# Altium integrated library CDE_Library.IntLib: 6171 symbols (part 8 of 25)
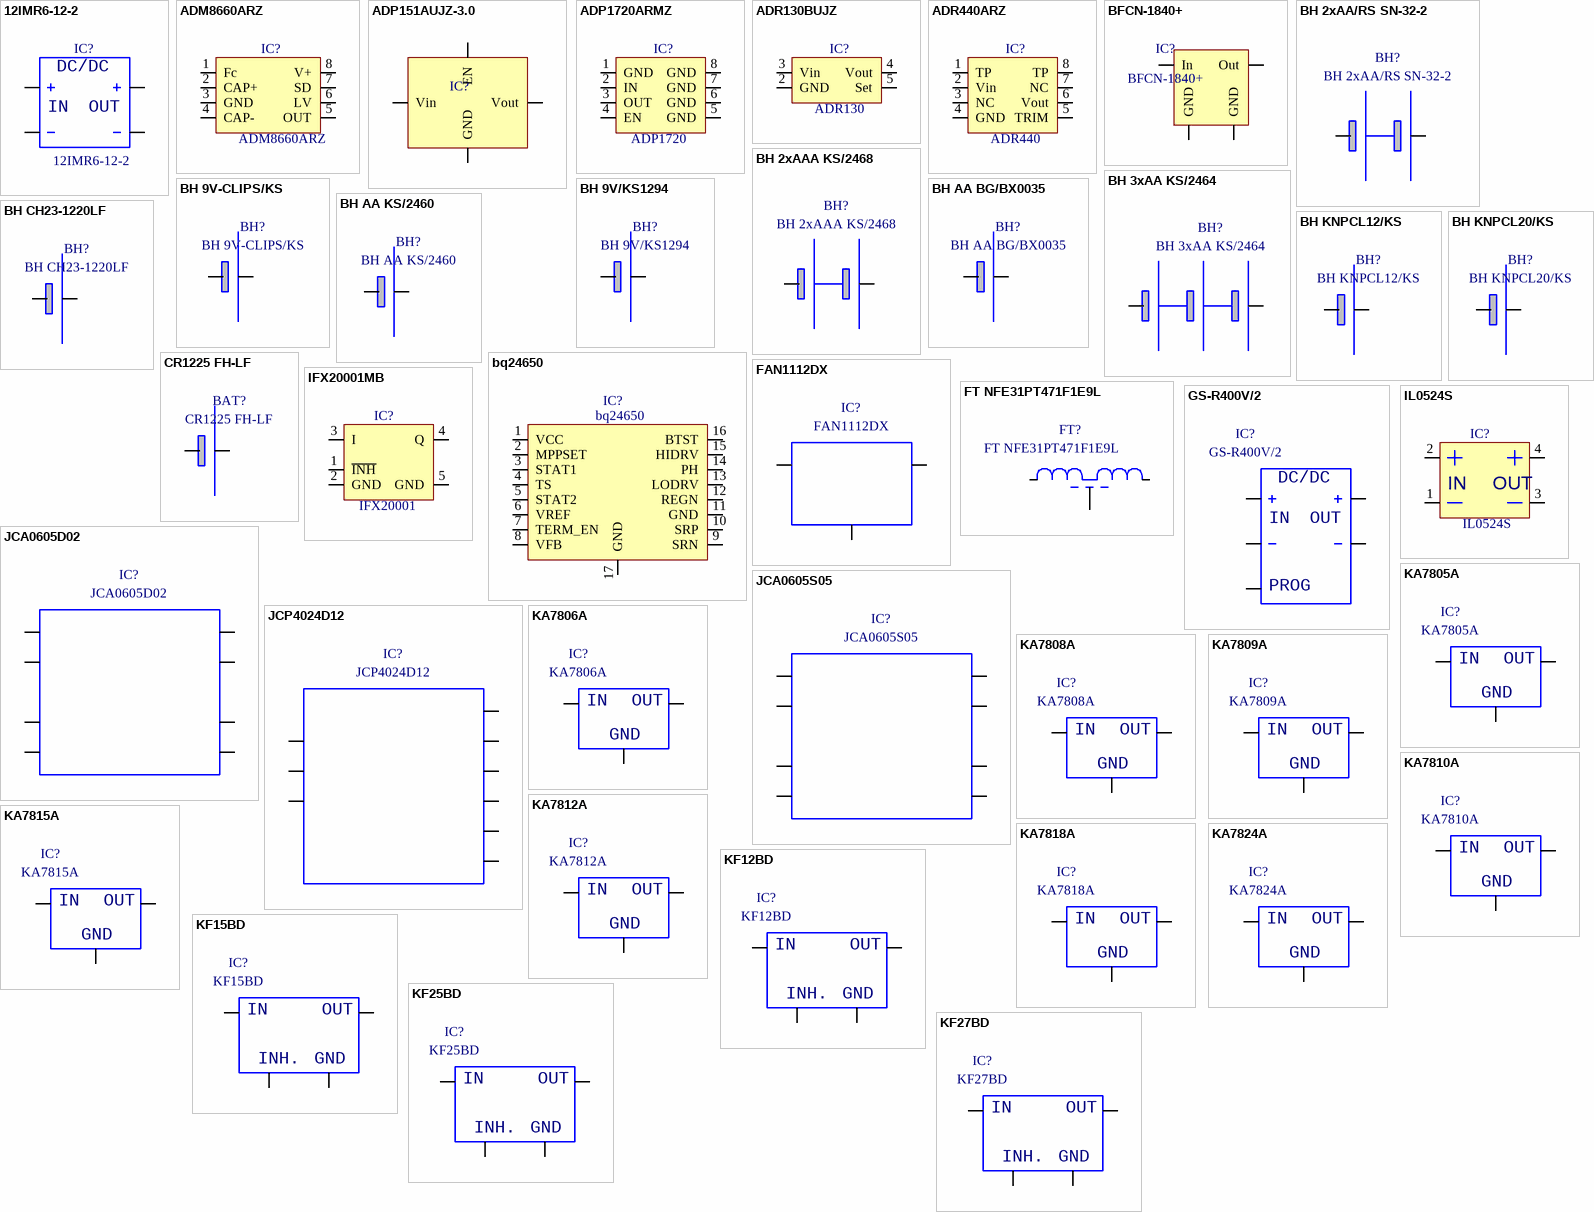
[diagram p264: symbols 12IMR6-12-2 to KF27BD]

## KA7824A
designator IC?
spanningsregelaar, +24V/1A, TO-220; Part Number: KA7824A; Component Kind: Standard; Component Type: Standard; Designator: KA7824A; Footprint: TO-220 (vertikaal); Library Reference: KA7824A; Pin Count: 3
footprint TO-220 (vertikaal)
pins: 1, 2, 3
text: IN; OUT; GND

## KF12BD
designator IC?
very low drop voltage regulator with inhibit, 1.25V
footprint smd SOICN/8
pins: 1, 2, 5, 8
text: IN; OUT; INH.; GND

## KF15BD
designator IC?
very low drop voltage regulator with inhibit, 1.5V; Part Number: KF15BD; Component Kind: Standard; Component Type: Standard; Designator: KF15BD; Footprint: smd SOICN/8; Library Reference: KF15BD; Pin Count: 4
footprint smd SOICN/8
pins: 1, 2, 5, 8
text: IN; OUT; INH.; GND

## KF25BD
designator IC?
very low drop voltage regulator with inhibit, 2.5V; Part Number: KF25BD; Component Kind: Standard; Component Type: Standard; Designator: KF25BD; Footprint: smd SOICN/8; Library Reference: KF25BD; Pin Count: 4
footprint smd SOICN/8
pins: 1, 2, 5, 8
text: IN; OUT; INH.; GND

## KF27BD
designator IC?
very low drop voltage regulator with inhibit, 2.7V; Part Number: KF27BD; Component Kind: Standard; Component Type: Standard; Designator: KF27BD; Footprint: smd SOICN/8; Library Reference: KF27BD; Pin Count: 4
footprint smd SOICN/8
pins: 1, 2, 5, 8
text: IN; OUT; INH.; GND

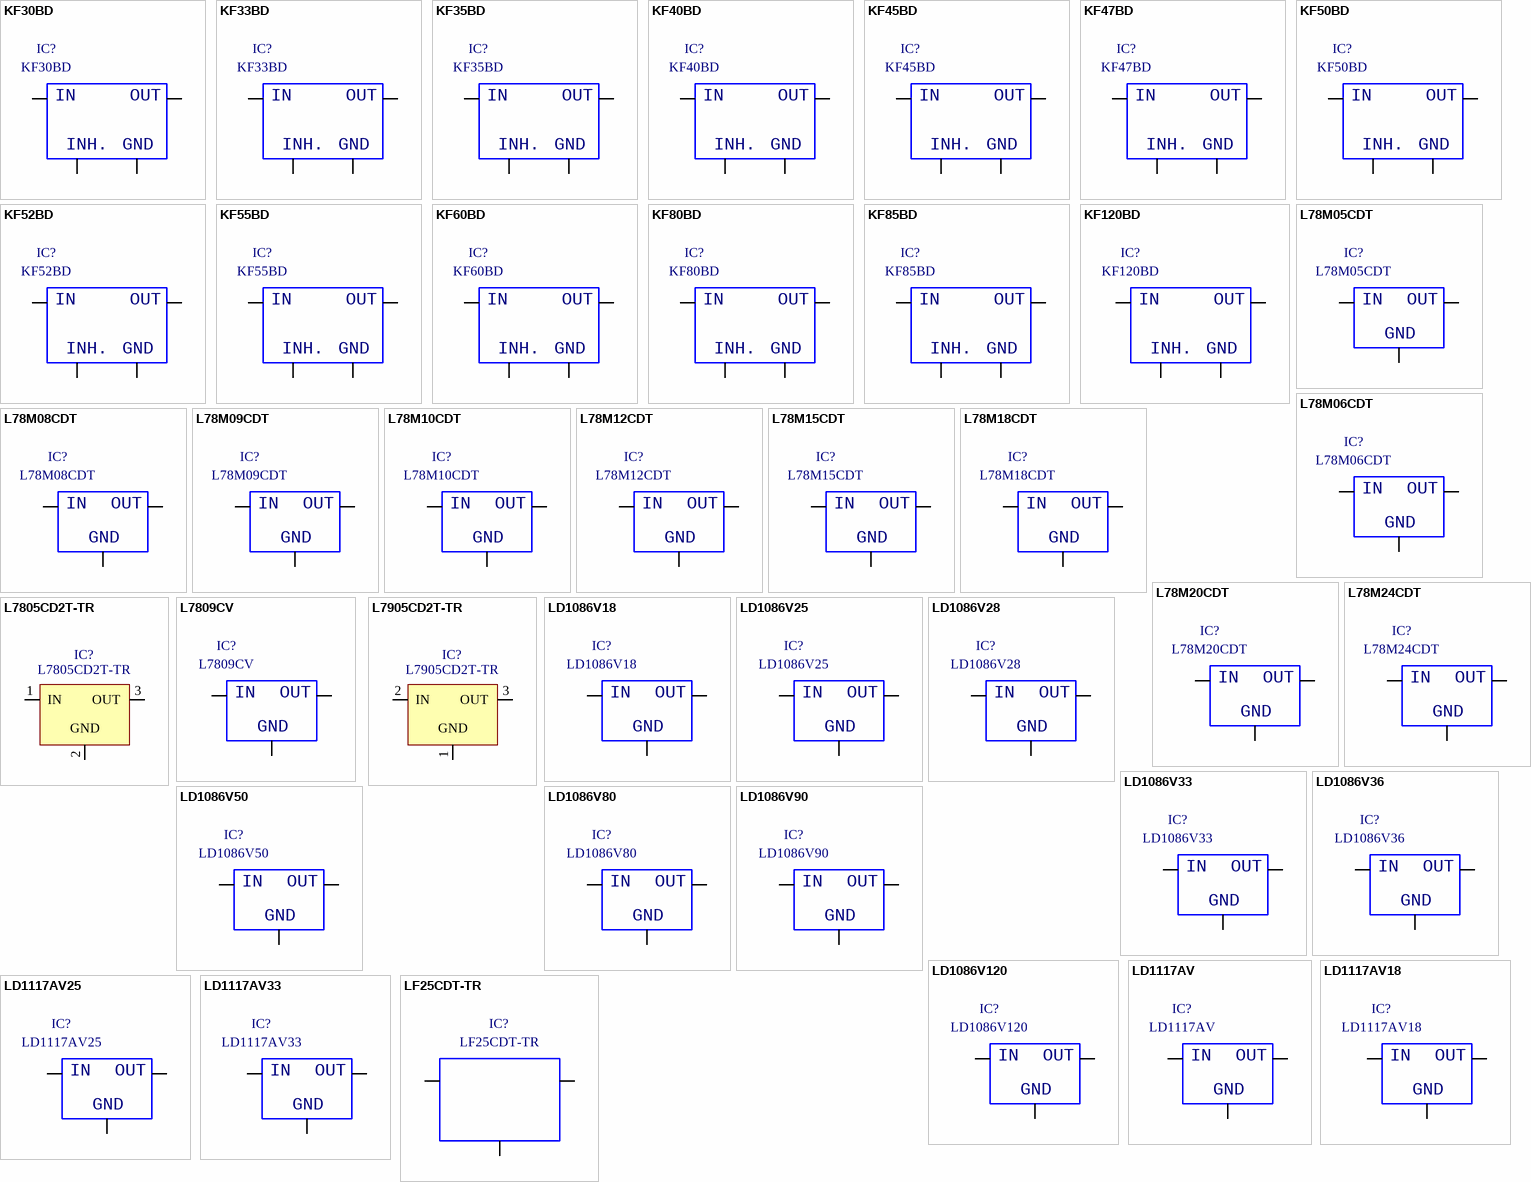
[diagram p107: symbols KF30BD to LF25CDT-TR]

## KF30BD
designator IC?
very low drop voltage regulator with inhibit, 3V; Part Number: KF30BD; Component Kind: Standard; Component Type: Standard; Designator: KF30BD; Footprint: smd SOICN/8; Library Reference: KF30BD; Pin Count: 4
footprint smd SOICN/8
pins: 1, 2, 5, 8
text: IN; OUT; INH.; GND

## KF33BD
designator IC?
very low drop voltage regulator with inhibit, 3.3V; Part Number: KF33BD; Component Kind: Standard; Component Type: Standard; Designator: KF33BD; Footprint: smd SOICN/8; Library Reference: KF33BD; Pin Count: 4
footprint smd SOICN/8
pins: 1, 2, 5, 8
text: IN; OUT; INH.; GND

## KF35BD
designator IC?
very low drop voltage regulator with inhibit, 3.5V; Part Number: KF35BD; Component Kind: Standard; Component Type: Standard; Designator: KF35BD; Footprint: smd SOICN/8; Library Reference: KF35BD; Pin Count: 4
footprint smd SOICN/8
pins: 1, 2, 5, 8
text: IN; OUT; INH.; GND

## KF40BD
designator IC?
very low drop voltage regulator with inhibit, 4V; Part Number: KF40BD; Component Kind: Standard; Component Type: Standard; Designator: KF40BD; Footprint: smd SOICN/8; Library Reference: KF40BD; Pin Count: 4
footprint smd SOICN/8
pins: 1, 2, 5, 8
text: IN; OUT; INH.; GND

## KF45BD
designator IC?
very low drop voltage regulator with inhibit, 4.5V; Part Number: KF45BD; Component Kind: Standard; Component Type: Standard; Designator: KF45BD; Footprint: smd SOICN/8; Library Reference: KF45BD; Pin Count: 4
footprint smd SOICN/8
pins: 1, 2, 5, 8
text: IN; OUT; INH.; GND

## KF47BD
designator IC?
very low drop voltage regulator with inhibit, 4.75V; Part Number: KF47BD; Component Kind: Standard; Component Type: Standard; Designator: KF47BD; Footprint: smd SOICN/8; Library Reference: KF47BD; Pin Count: 4
footprint smd SOICN/8
pins: 1, 2, 5, 8
text: IN; OUT; INH.; GND

## KF50BD
designator IC?
very low drop voltage regulator with inhibit, 5V; Part Number: KF50BD; Component Kind: Standard; Component Type: Standard; Designator: KF50BD; Footprint: smd SOICN/8; Library Reference: KF50BD; Pin Count: 4
footprint smd SOICN/8
pins: 1, 2, 5, 8
text: IN; OUT; INH.; GND

## KF52BD
designator IC?
very low drop voltage regulator with inhibit, 5.2V; Part Number: KF52BD; Component Kind: Standard; Component Type: Standard; Designator: KF52BD; Footprint: smd SOICN/8; Library Reference: KF52BD; Pin Count: 4
footprint smd SOICN/8
pins: 1, 2, 5, 8
text: IN; OUT; INH.; GND

## KF55BD
designator IC?
very low drop voltage regulator with inhibit, 5.5V; Part Number: KF55BD; Component Kind: Standard; Component Type: Standard; Designator: KF55BD; Footprint: smd SOICN/8; Library Reference: KF55BD; Pin Count: 4
footprint smd SOICN/8
pins: 1, 2, 5, 8
text: IN; OUT; INH.; GND

## KF60BD
designator IC?
very low drop voltage regulator with inhibit, 6V; Part Number: KF60BD; Component Kind: Standard; Component Type: Standard; Designator: KF60BD; Footprint: smd SOICN/8; Library Reference: KF60BD; Pin Count: 4
footprint smd SOICN/8
pins: 1, 2, 5, 8
text: IN; OUT; INH.; GND

## KF80BD
designator IC?
very low drop voltage regulator with inhibit, 8V; Part Number: KF80BD; Component Kind: Standard; Component Type: Standard; Designator: KF80BD; Footprint: smd SOICN/8; Library Reference: KF80BD; Pin Count: 4
footprint smd SOICN/8
pins: 1, 2, 5, 8
text: IN; OUT; INH.; GND

## KF85BD
designator IC?
very low drop voltage regulator with inhibit, 8.5V; Part Number: KF85BD; Component Kind: Standard; Component Type: Standard; Designator: KF85BD; Footprint: smd SOICN/8; Library Reference: KF85BD; Pin Count: 4
footprint smd SOICN/8
pins: 1, 2, 5, 8
text: IN; OUT; INH.; GND

## KF120BD
designator IC?
very low drop voltage regulator with inhibit, 12V; Part Number: KF120BD; Component Kind: Standard; Component Type: Standard; Designator: KF120BD; Footprint: smd SOICN/8; Library Reference: KF120BD; Pin Count: 4
footprint smd SOICN/8
pins: 1, 2, 5, 8
text: IN; OUT; INH.; GND

## L78M05CDT
designator IC?
spanningsregelaar +5V/500mA, TO-252
footprint TO-252 3pin
pins: 1, 2, 3
text: IN; OUT; GND

## L78M06CDT
designator IC?
spanningsregelaar +6V/500mA, TO-252; Part Number: L78M06CDT; Component Kind: Standard; Component Type: Standard; Designator: L78M06CDT; Footprint: TO-252 3pin; Library Reference: L78M06CDT; Pin Count: 3
footprint TO-252 3pin
pins: 1, 2, 3
text: IN; OUT; GND

## L78M08CDT
designator IC?
spanningsregelaar +8V/500mA, TO-252; Part Number: L78M08CDT; Component Kind: Standard; Component Type: Standard; Designator: L78M08CDT; Footprint: TO-252 3pin; Library Reference: L78M08CDT; Pin Count: 3
footprint TO-252 3pin
pins: 1, 2, 3
text: IN; OUT; GND

## L78M09CDT
designator IC?
spanningsregelaar +9V/500mA, TO-252; Part Number: L78M09CDT; Component Kind: Standard; Component Type: Standard; Designator: L78M09CDT; Footprint: TO-252 3pin; Library Reference: L78M09CDT; Pin Count: 3
footprint TO-252 3pin
pins: 1, 2, 3
text: IN; OUT; GND

## L78M10CDT
designator IC?
spanningsregelaar +10V/500mA, TO-252; Part Number: L78M10CDT; Component Kind: Standard; Component Type: Standard; Designator: L78M10CDT; Footprint: TO-252 3pin; Library Reference: L78M10CDT; Pin Count: 3
footprint TO-252 3pin
pins: 1, 2, 3
text: IN; OUT; GND

## L78M12CDT
designator IC?
spanningsregelaar +12V/500mA, TO-252; Part Number: L78M12CDT; Component Kind: Standard; Component Type: Standard; Designator: L78M12CDT; Footprint: TO-252 3pin; Library Reference: L78M12CDT; Pin Count: 3
footprint TO-252 3pin
pins: 1, 2, 3
text: IN; OUT; GND

## L78M15CDT
designator IC?
spanningsregelaar +15V/500mA, TO-252; Part Number: L78M15CDT; Component Kind: Standard; Component Type: Standard; Designator: L78M15CDT; Footprint: TO-252 3pin; Library Reference: L78M15CDT; Pin Count: 3
footprint TO-252 3pin
pins: 1, 2, 3
text: IN; OUT; GND

## L78M18CDT
designator IC?
spanningsregelaar +18V/500mA, TO-252; Part Number: L78M18CDT; Component Kind: Standard; Component Type: Standard; Designator: L78M18CDT; Footprint: TO-252 3pin; Library Reference: L78M18CDT; Pin Count: 3
footprint TO-252 3pin
pins: 1, 2, 3
text: IN; OUT; GND

## L78M20CDT
designator IC?
spanningsregelaar +20V/500mA, TO-252; Part Number: L78M20CDT; Component Kind: Standard; Component Type: Standard; Designator: L78M20CDT; Footprint: TO-252 3pin; Library Reference: L78M20CDT; Pin Count: 3
footprint TO-252 3pin
pins: 1, 2, 3
text: IN; OUT; GND

## L78M24CDT
designator IC?
spanningsregelaar +24V/500mA, TO-252; Part Number: L78M24CDT; Component Kind: Standard; Component Type: Standard; Designator: L78M24CDT; Footprint: TO-252 3pin; Library Reference: L78M24CDT; Pin Count: 3
footprint TO-252 3pin
pins: 1, 2, 3
text: IN; OUT; GND

## L7805CD2T-TR
designator IC?
voltage regulator, +5V
footprint SMD D2-PAK (D2-PAK, 4-Leads, Body 8.8x10.4mm, Pitch 2.54mm, Lead Span 15.1mm, IPC High Density)
pins: 1 IN, 2 GND, 3 OUT

## L7809CV
designator IC?
positive voltage regulator, 9V; Part Number: L7809CV; Component Kind: Standard; Component Type: Standard; Designator: L7809CV; Footprint: TO-220 (vertikaal); Library Reference: L7809CV; Pin Count: 3
footprint TO-220 (vertikaal)
pins: 1, 2, 3
text: IN; OUT; GND

## L7905CD2T-TR
designator IC?
voltage regulator, -5V
footprint SMD D2-PAK (D2-PAK, 4-Leads, Body 8.8x10.4mm, Pitch 2.54mm, Lead Span 15.1mm, IPC High Density)
pins: 1 GND, 2 IN, 3 OUT

## LD1086V18
designator IC?
low dropout linear regulator, 1.8V 1.5A, TO-220; Part Number: LD1086V18; Component Kind: Standard; Component Type: Standard; Designator: LD1086V18; Footprint: TO-220 (vertikaal); Library Reference: LD1086V18; Pin Count: 3
footprint TO-220 (vertikaal)
pins: 1, 2, 3
text: IN; OUT; GND

## LD1086V25
designator IC?
low dropout linear regulator, 2.5V 1.5A, TO-220; Part Number: LD1086V25; Component Kind: Standard; Component Type: Standard; Designator: LD1086V25; Footprint: TO-220 (vertikaal); Library Reference: LD1086V25; Pin Count: 3
footprint TO-220 (vertikaal)
pins: 1, 2, 3
text: IN; OUT; GND

## LD1086V28
designator IC?
low dropout linear regulator, 2.85V 1.5A, TO-220; Part Number: LD1086V28; Component Kind: Standard; Component Type: Standard; Designator: LD1086V28; Footprint: TO-220 (vertikaal); Library Reference: LD1086V28; Pin Count: 3
footprint TO-220 (vertikaal)
pins: 1, 2, 3
text: IN; OUT; GND

## LD1086V33
designator IC?
low dropout linear regulator, 3.3V 1.5A, TO-220; Part Number: LD1086V33; Component Kind: Standard; Component Type: Standard; Designator: LD1086V33; Footprint: TO-220 (vertikaal); Library Reference: LD1086V33; Pin Count: 3
footprint TO-220 (vertikaal)
pins: 1, 2, 3
text: IN; OUT; GND

## LD1086V36
designator IC?
low dropout linear regulator, 3.6V 1.5A, TO-220; Part Number: LD1086V36; Component Kind: Standard; Component Type: Standard; Designator: LD1086V36; Footprint: TO-220 (vertikaal); Library Reference: LD1086V36; Pin Count: 3
footprint TO-220 (vertikaal)
pins: 1, 2, 3
text: IN; OUT; GND

## LD1086V50
designator IC?
low dropout linear regulator, 5V 1.5A, TO-220; Part Number: LD1086V50; Component Kind: Standard; Component Type: Standard; Designator: LD1086V50; Footprint: TO-220 (vertikaal); Library Reference: LD1086V50; Pin Count: 3
footprint TO-220 (vertikaal)
pins: 1, 2, 3
text: IN; OUT; GND

## LD1086V80
designator IC?
low dropout linear regulator, 8V 1.5A, TO-220; Part Number: LD1086V80; Component Kind: Standard; Component Type: Standard; Designator: LD1086V80; Footprint: TO-220 (vertikaal); Library Reference: LD1086V80; Pin Count: 3
footprint TO-220 (vertikaal)
pins: 1, 2, 3
text: IN; OUT; GND

## LD1086V90
designator IC?
low dropout linear regulator, 9V 1.5A, TO-220; Part Number: LD1086V90; Component Kind: Standard; Component Type: Standard; Designator: LD1086V90; Footprint: TO-220 (vertikaal); Library Reference: LD1086V90; Pin Count: 3
footprint TO-220 (vertikaal)
pins: 1, 2, 3
text: IN; OUT; GND

## LD1086V120
designator IC?
low dropout linear regulator, 12V 1.5A, TO-220; Part Number: LD1086V120; Component Kind: Standard; Component Type: Standard; Designator: LD1086V120; Footprint: TO-220 (vertikaal); Library Reference: LD1086V120; Pin Count: 3
footprint TO-220 (vertikaal)
pins: 1, 2, 3
text: IN; OUT; GND

## LD1117AV
designator IC?
low dropout linear regulator, adjustable 1A, TO-220; Part Number: LD1117AV; Component Kind: Standard; Component Type: Standard; Designator: LD1117AV; Footprint: TO-220 (vertikaal); Library Reference: LD1117AV; Pin Count: 3
footprint TO-220 (vertikaal)
pins: 1, 2, 3
text: IN; OUT; GND

## LD1117AV18
designator IC?
low dropout linear regulator, 1.8V 1A, TO-220; Part Number: LD1117AV18; Component Kind: Standard; Component Type: Standard; Designator: LD1117AV18; Footprint: TO-220 (vertikaal); Library Reference: LD1117AV18; Pin Count: 3
footprint TO-220 (vertikaal)
pins: 1, 2, 3
text: IN; OUT; GND

## LD1117AV25
designator IC?
low dropout linear regulator, 2.5V 1A, TO-220; Part Number: LD1117AV25; Component Kind: Standard; Component Type: Standard; Designator: LD1117AV25; Footprint: TO-220 (vertikaal); Library Reference: LD1117AV25; Pin Count: 3
footprint TO-220 (vertikaal)
pins: 1, 2, 3
text: IN; OUT; GND

## LD1117AV33
designator IC?
low dropout linear regulator, 3.3V 1A, TO-220; Part Number: LD1117AV33; Component Kind: Standard; Component Type: Standard; Designator: LD1117AV33; Footprint: TO-220 (vertikaal); Library Reference: LD1117AV33; Pin Count: 3
footprint TO-220 (vertikaal)
pins: 1, 2, 3
text: IN; OUT; GND

## LF25CDT-TR
designator IC?
very LDO regulator with inhibit
footprint TO-252 3pin
pins: 1 IN, 2 GND, 3 OUT

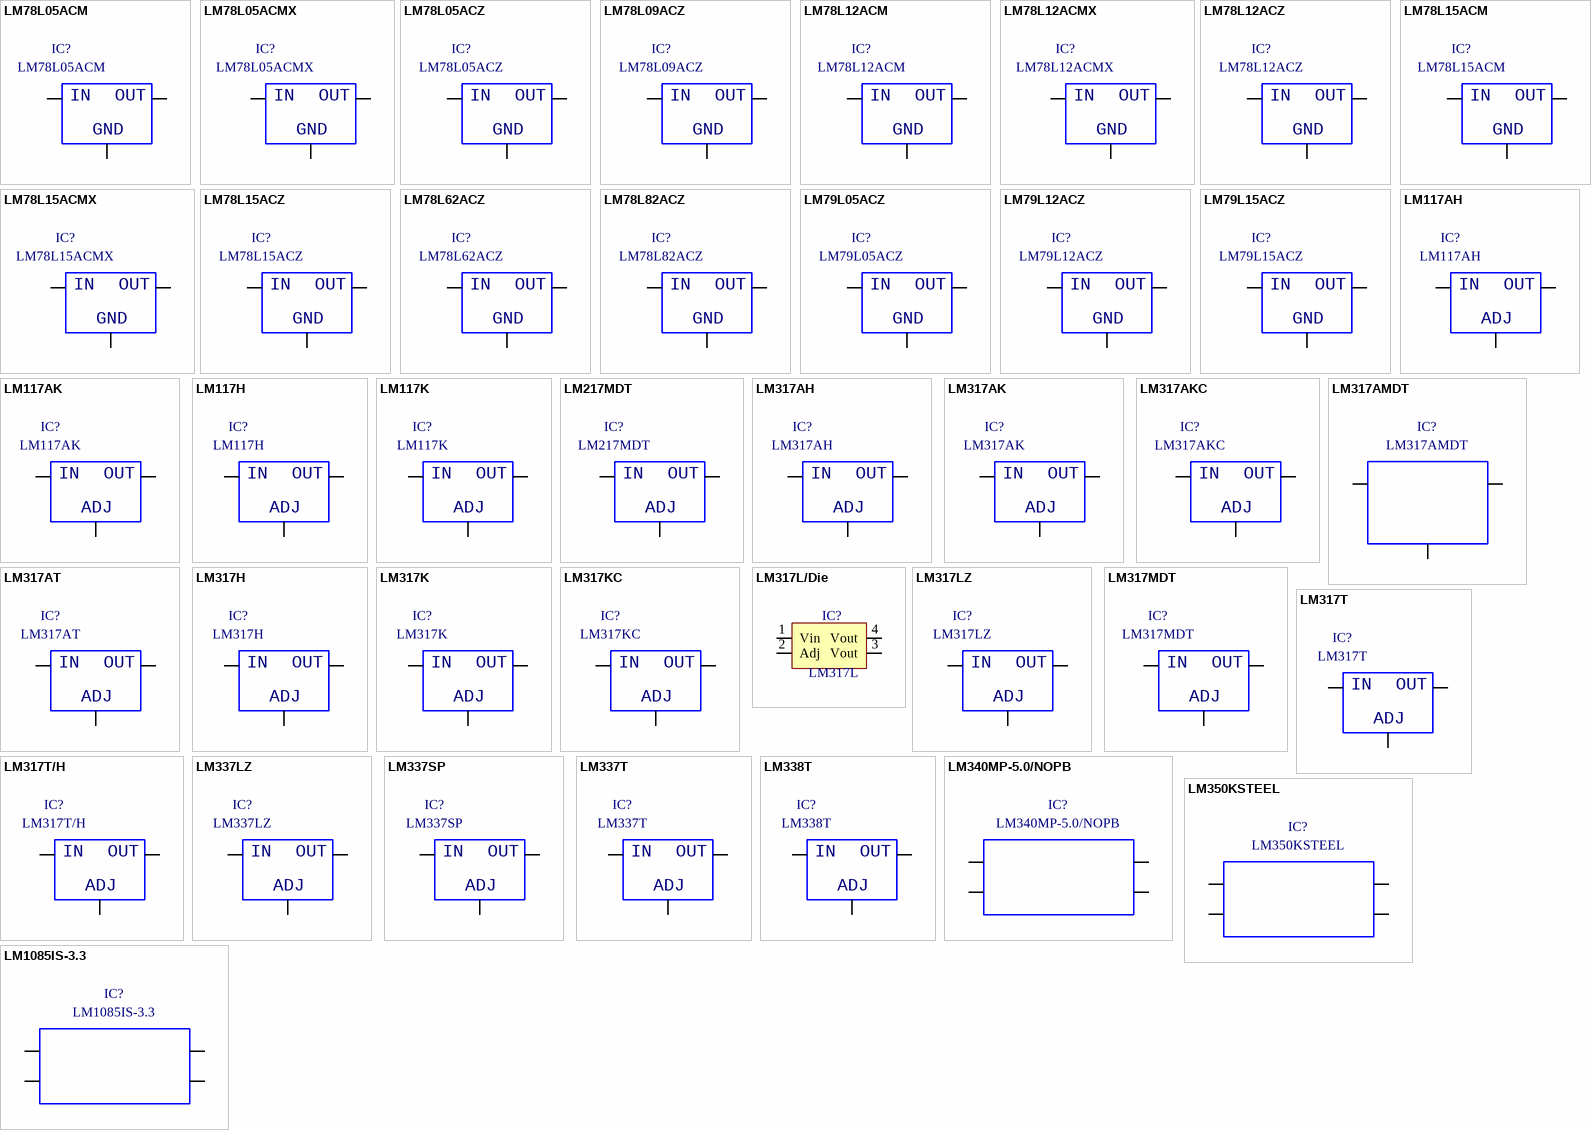
[diagram p108: symbols LM78L05ACM to LM1085IS-3.3]

## LM78L05ACM
designator IC?
spanningsregelaar, +5V, smd SO-8
footprint smd SOICN/8
pins: 1, 2, 8
text: IN; OUT; GND

## LM78L05ACMX
designator IC?
spanningsregelaar, +5V, smd SO-8; Part Number: LM78L05ACMX; Component Kind: Standard; Component Type: Standard; Designator: LM78L05ACMX; Footprint: smd SOICN/8; Library Reference: LM78L05ACMX; Pin Count: 3
footprint smd SOICN/8
pins: 1, 2, 8
text: IN; OUT; GND

## LM78L05ACZ
designator IC?
spanningsregelaar, +5V, TO-92
footprint TO-92
pins: 1, 2, 3
text: IN; OUT; GND

## LM78L09ACZ
designator IC?
spanningsregelaar, +9V, TO-92; Part Number: LM78L09ACZ; Component Kind: Standard; Component Type: Standard; Designator: LM78L09ACZ; Footprint: TO-92; Library Reference: LM78L09ACZ; Pin Count: 3
footprint TO-92
pins: 1, 2, 3
text: IN; OUT; GND

## LM78L12ACM
designator IC?
spanningsregelaar, +12V, smd SO-8; Part Number: LM78L12ACM; Component Kind: Standard; Component Type: Standard; Designator: LM78L12ACM; Footprint: smd SOICN/8; Library Reference: LM78L12ACM; Pin Count: 3
footprint smd SOICN/8
pins: 1, 2, 8
text: IN; OUT; GND

## LM78L12ACMX
designator IC?
spanningsregelaar, +12V, smd SO-8; Part Number: LM78L12ACMX; Component Kind: Standard; Component Type: Standard; Designator: LM78L12ACMX; Footprint: smd SOICN/8; Library Reference: LM78L12ACMX; Pin Count: 3
footprint smd SOICN/8
pins: 1, 2, 8
text: IN; OUT; GND

## LM78L12ACZ
designator IC?
spanningsregelaar, +12V, TO-92; Part Number: LM78L12ACZ; Component Kind: Standard; Component Type: Standard; Designator: LM78L12ACZ; Footprint: TO-92; Library Reference: LM78L12ACZ; Pin Count: 3
footprint TO-92
pins: 1, 2, 3
text: IN; OUT; GND

## LM78L15ACM
designator IC?
spanningsregelaar, +15V, smd SO-8; Part Number: LM78L15ACM; Component Kind: Standard; Component Type: Standard; Designator: LM78L15ACM; Footprint: smd SOICN/8; Library Reference: LM78L15ACM; Pin Count: 3
footprint smd SOICN/8
pins: 1, 2, 8
text: IN; OUT; GND

## LM78L15ACMX
designator IC?
spanningsregelaar, +15V, smd SO-8; Part Number: LM78L15ACMX; Component Kind: Standard; Component Type: Standard; Designator: LM78L15ACMX; Footprint: smd SOICN/8; Library Reference: LM78L15ACMX; Pin Count: 3
footprint smd SOICN/8
pins: 1, 2, 8
text: IN; OUT; GND

## LM78L15ACZ
designator IC?
spanningsregelaar, +15V, TO-92; Part Number: LM78L15ACZ; Component Kind: Standard; Component Type: Standard; Designator: LM78L15ACZ; Footprint: TO-92; Library Reference: LM78L15ACZ; Pin Count: 3
footprint TO-92
pins: 1, 2, 3
text: IN; OUT; GND

## LM78L62ACZ
designator IC?
spanningsregelaar, +6.2V, TO-92; Part Number: LM78L62ACZ; Component Kind: Standard; Component Type: Standard; Designator: LM78L62ACZ; Footprint: TO-92; Library Reference: LM78L62ACZ; Pin Count: 3
footprint TO-92
pins: 1, 2, 3
text: IN; OUT; GND

## LM78L82ACZ
designator IC?
spanningsregelaar, +8.2V, TO-92; Part Number: LM78L82ACZ; Component Kind: Standard; Component Type: Standard; Designator: LM78L82ACZ; Footprint: TO-92; Library Reference: LM78L82ACZ; Pin Count: 3
footprint TO-92
pins: 1, 2, 3
text: IN; OUT; GND

## LM79L05ACZ
designator IC?
spanningsregelaar, -5V  TO-92
footprint TO-92
pins: 1, 2, 3
text: IN; OUT; GND

## LM79L12ACZ
designator IC?
spanningsregelaar, -12V  TO-92; Part Number: LM79L12ACZ; Component Kind: Standard; Component Type: Standard; Designator: LM79L12ACZ; Footprint: TO-92; Library Reference: LM79L12ACZ; Pin Count: 3
footprint TO-92
pins: 1, 2, 3
text: IN; OUT; GND

## LM79L15ACZ
designator IC?
spanningsregelaar, -15V  TO-92; Part Number: LM79L15ACZ; Component Kind: Standard; Component Type: Standard; Designator: LM79L15ACZ; Footprint: TO-92; Library Reference: LM79L15ACZ; Pin Count: 3
footprint TO-92
pins: 1, 2, 3
text: IN; OUT; GND

## LM117AH
designator IC?
instelbare spanningsregelaar 1.2 - 37V TO-39; Part Number: LM117AH; Component Kind: Standard; Component Type: Standard; Designator: LM117AH; Footprint: TO-39; Library Reference: LM117AH; Pin Count: 3
footprint TO-39
pins: 1, 2, 3
text: IN; OUT; ADJ

## LM117AK
designator IC?
instelbare spanningsregelaar 1.2 - 37V TO-3; Part Number: LM117AK; Component Kind: Standard; Component Type: Standard; Designator: LM117AK; Footprint: TO-3; Library Reference: LM117AK; Pin Count: 3
footprint TO-3
pins: 1, 2, 3
text: IN; OUT; ADJ

## LM117H
designator IC?
instelbare spanningsregelaar 1.2 - 37V TO-39
footprint TO-39
pins: 1, 2, 3
text: IN; OUT; ADJ

## LM117K
designator IC?
instelbare spanningsregelaar 1.2 - 37V TO-3
footprint TO-3
pins: 1, 2, 3
text: IN; OUT; ADJ

## LM217MDT
designator IC?
adjustable voltage regulator 1.2 to 37V
footprint TO-252 3pin
pins: 1, 2, 3
text: IN; OUT; ADJ

## LM317AH
designator IC?
instelbare spanningsregelaar 1.2 - 37V TO-39; Part Number: LM317AH; Component Kind: Standard; Component Type: Standard; Designator: LM317AH; Footprint: TO-39; Library Reference: LM317AH; Pin Count: 3
footprint TO-39
pins: 1, 2, 3
text: IN; OUT; ADJ

## LM317AK
designator IC?
instelbare spanningsregelaar 1.2 - 37V TO-3; Part Number: LM317AK; Component Kind: Standard; Component Type: Standard; Designator: LM317AK; Footprint: TO-3; Library Reference: LM317AK; Pin Count: 3
footprint TO-3
pins: 1, 2, 3
text: IN; OUT; ADJ

## LM317AKC
designator IC?
instelbare spanningsregelaar 1.2 - 37V TO-3; Part Number: LM317AKC; Component Kind: Standard; Component Type: Standard; Designator: LM317AKC; Footprint: TO-3; Library Reference: LM317AKC; Pin Count: 3
footprint TO-3
pins: 1, 2, 3
text: IN; OUT; ADJ

## LM317AMDT
designator IC?
adjustable regulator; Part Number: LM317AMDT; Component Kind: Standard; Component Type: Standard; Designator: LM317AMDT; Footprint: TO-252 3pin; Library Reference: LM317AMDT; Pin Count: 3
footprint TO-252 3pin
pins: 1 GND, 2 OUT, 3 IN

## LM317AT
designator IC?
instelbare spanningsregelaar 1.2 - 37V TO-220; Part Number: LM317AT; Component Kind: Standard; Component Type: Standard; Designator: LM317AT; Footprint: TO-220 (vertikaal); Library Reference: LM317AT; Pin Count: 3
footprint TO-220 (vertikaal)
pins: 1, 2, 3
text: IN; OUT; ADJ

## LM317H
designator IC?
instelbare spanningsregelaar 1.2 - 37V TO-39; Part Number: LM317H; Component Kind: Standard; Component Type: Standard; Designator: LM317H; Footprint: TO-39; Library Reference: LM317H; Pin Count: 3
footprint TO-39
pins: 1, 2, 3
text: IN; OUT; ADJ

## LM317K
designator IC?
instelbare spanningsregelaar 1.2 - 37V TO-3; Part Number: LM317K; Component Kind: Standard; Component Type: Standard; Designator: LM317K; Footprint: TO-3; Library Reference: LM317K; Pin Count: 3
footprint TO-3
pins: 1, 2, 3
text: IN; OUT; ADJ

## LM317KC
designator IC?
instelbare spanningsregelaar 1.2 - 37V TO-3; Part Number: LM317KC; Component Kind: Standard; Component Type: Standard; Designator: LM317KC; Footprint: TO-3; Library Reference: LM317KC; Pin Count: 3
footprint TO-3
pins: 1, 2, 3
text: IN; OUT; ADJ

## LM317L/Die
designator IC?, comment LM317L
LM317L, Naked Die
footprint lm317l/die
pins: 1 Vin, 2 Adj, 3 Vout, 4 Vout

## LM317LZ
designator IC?
instelbare spanningsregelaar 1.2 - 37V TO-92
footprint TO-92
pins: 1, 2, 3
text: IN; OUT; ADJ

## LM317MDT
designator IC?
adjustable voltage regulator 1.2 to 37V; Part Number: LM317MDT; Component Kind: Standard; Component Type: Standard; Designator: LM317MDT; Footprint: TO-252 3pin; Library Reference: LM317MDT; Pin Count: 3
footprint TO-252 3pin
pins: 1, 2, 3
text: IN; OUT; ADJ

## LM317T
designator IC?
instelbare spanningsregelaar 1.2 - 37V TO-220
footprint TO-220 (vertikaal)
pins: 1, 2, 3
text: IN; OUT; ADJ

## LM317T/H
designator IC?
instelbare spanningsregelaar 1.2 - 37V TO-220 horizontaal
footprint TO-220 (horizontaal)
pins: 1, 2, 3
text: IN; OUT; ADJ

## LM337LZ
designator IC?
adjustable negative voltage regulator
footprint TO-92
pins: 1, 2, 3
text: IN; OUT; ADJ

## LM337SP
designator IC?
instelbare negatieve spanningsregelaar; Part Number: LM337SP; Component Kind: Standard; Component Type: Standard; Designator: LM337SP; Footprint: TO-220 (vertikaal); Library Reference: LM337SP; Pin Count: 3
footprint TO-220 (vertikaal)
pins: 1, 2, 3
text: IN; OUT; ADJ

## LM337T
designator IC?
instelbare negatieve spanningsregelaar
footprint TO-220 (vertikaal)
pins: 1, 2, 3
text: IN; OUT; ADJ

## LM338T
designator IC?
5A adjustable regulator; Part Number: LM338T; Component Kind: Standard; Component Type: Standard; Designator: LM338T; Footprint: TO-220 (vertikaal); Library Reference: LM338T; Pin Count: 3
footprint TO-220 (vertikaal)
pins: 1, 2, 3
text: IN; OUT; ADJ

## LM340MP-5.0/NOPB
designator IC?
spanningsregelaar, +5V/1A, SOT-223
footprint smd SOT-223
pins: 1 VIN, 2 GND, 3 VOUT, 4 GND

## LM350KSTEEL
designator IC?
3-Amp Adjustable Regulators
footprint TO-3
pins: 1 OUT, 2 ADJ, 3 VIN, 4 OUT

## LM1085IS-3.3
designator IC?
positive LDO  regulator, 1.5A, 3.3V; Part Number: LM1085IS-3.3; Component Kind: Standard; Component Type: Standard; Designator: LM1085IS-3.3; Footprint: TO-263 4pin; Library Reference: LM1085IS-3.3; Pin Count: 4
footprint TO-263 4pin
pins: 1 GND, 2 OUT, 3 IN, 4 OUT

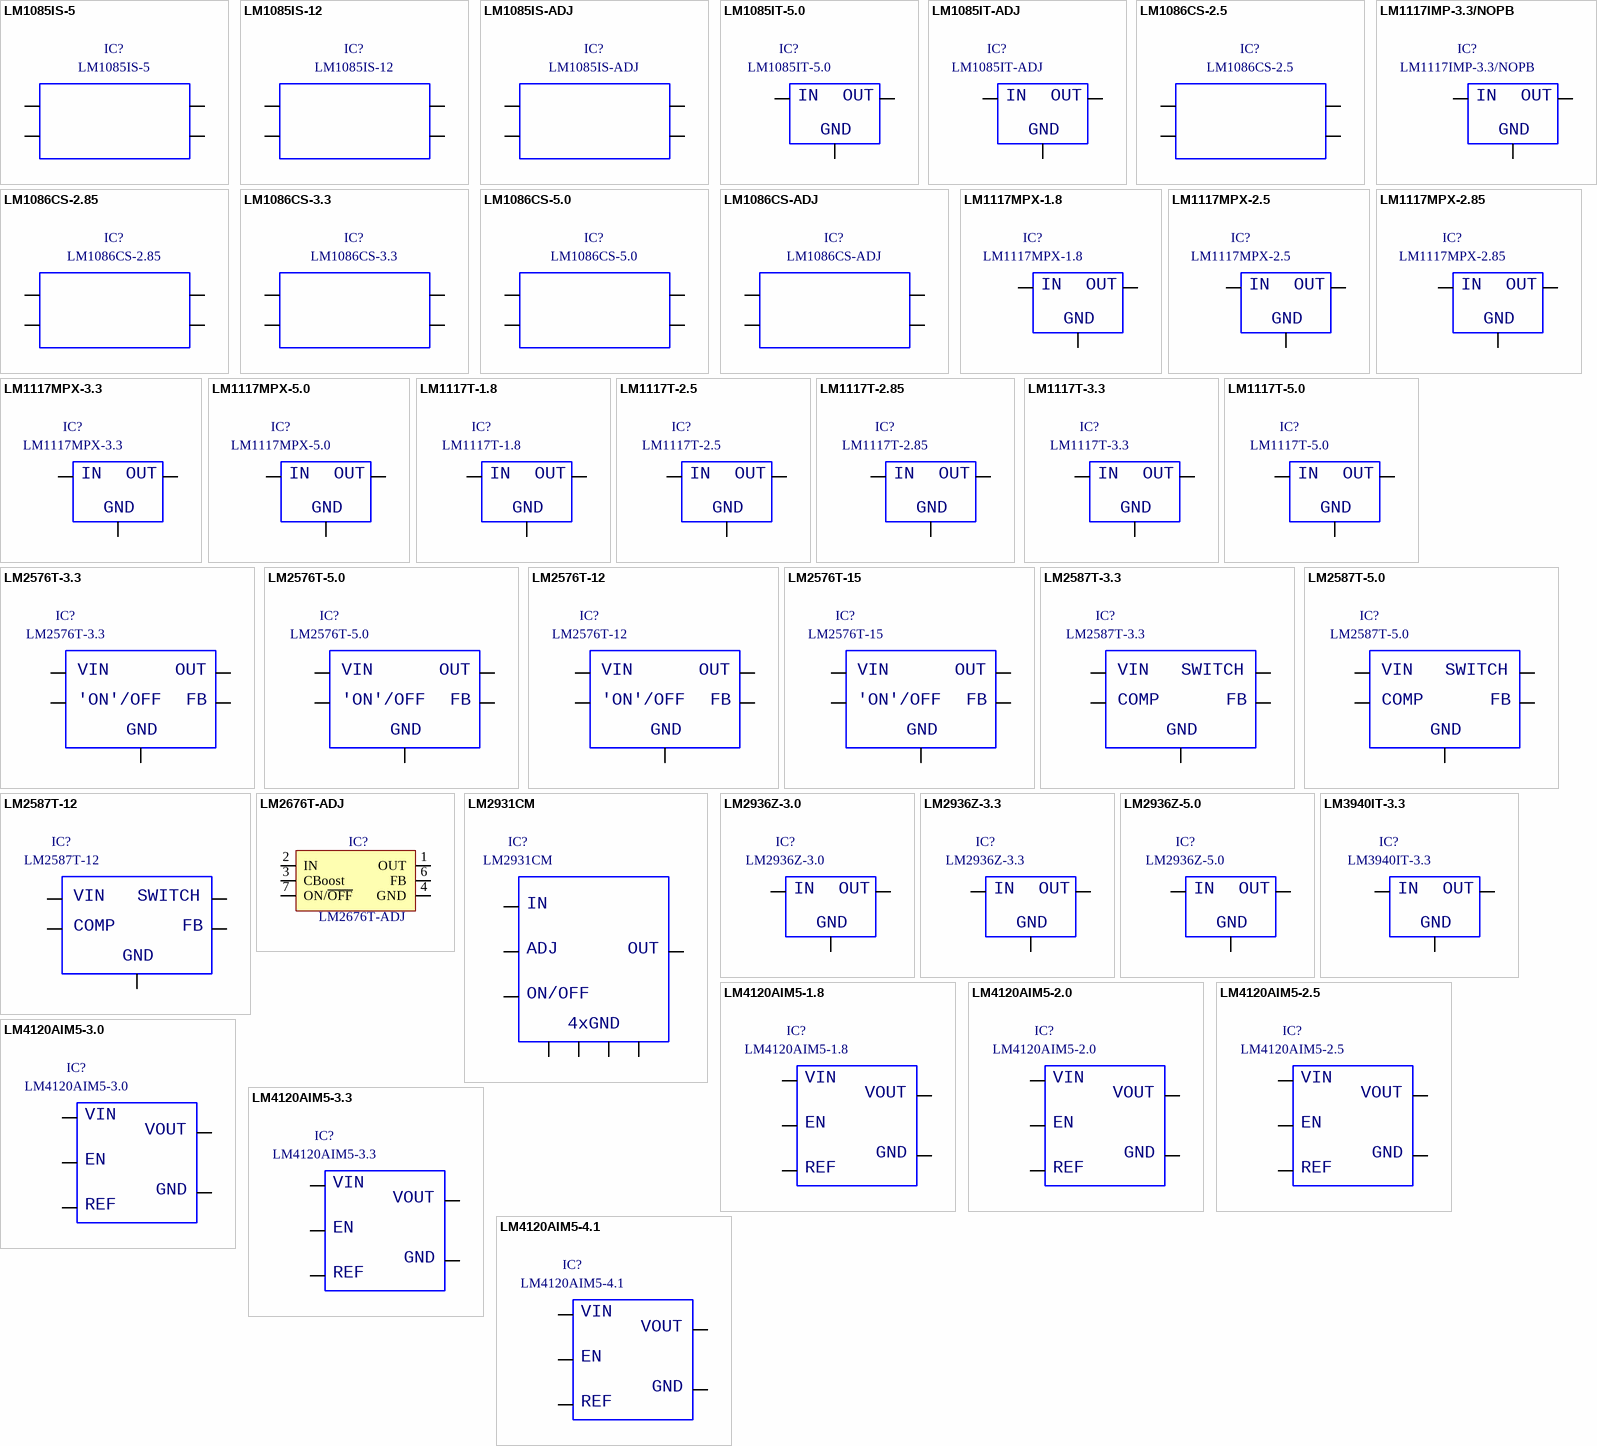
[diagram p109: symbols LM1085IS-5 to LM4120AIM5-4.1]

## LM1085IS-5
designator IC?
positive LDO regulator, 1.5A, 5V; Part Number: LM1085IS-5; Component Kind: Standard; Component Type: Standard; Designator: LM1085IS-5; Footprint: TO-263 4pin; Library Reference: LM1085IS-5; Pin Count: 4
footprint TO-263 4pin
pins: 1 GND, 2 OUT, 3 IN, 4 OUT

## LM1085IS-12
designator IC?
positive LDO regulator, 1.5A, 12V; Part Number: LM1085IS-12; Component Kind: Standard; Component Type: Standard; Designator: LM1085IS-12; Footprint: TO-263 4pin; Library Reference: LM1085IS-12; Pin Count: 4
footprint TO-263 4pin
pins: 1 GND, 2 OUT, 3 IN, 4 OUT

## LM1085IS-ADJ
designator IC?
positive  LDO regulator, 1.5A, adjustable; Part Number: LM1085IS-ADJ; Component Kind: Standard; Component Type: Standard; Designator: LM1085IS-ADJ; Footprint: TO-263 4pin; Library Reference: LM1085IS-ADJ; Pin Count: 4
footprint TO-263 4pin
pins: 1 GND, 2 OUT, 3 IN, 4 OUT

## LM1085IT-5.0
designator IC?
spanningsregelaar, +5V 3A, TO-220
footprint TO-220 (vertikaal)
pins: 1, 2, 3
text: IN; OUT; GND

## LM1085IT-ADJ
designator IC?
spanningsregelaar, ADJ 3A, TO-220; Part Number: LM1085IT-ADJ; Component Kind: Standard; Component Type: Standard; Designator: LM1085IT-ADJ; Footprint: TO-220 (vertikaal); Library Reference: LM1085IT-ADJ; Pin Count: 3
footprint TO-220 (vertikaal)
pins: 1, 2, 3
text: IN; OUT; GND

## LM1086CS-2.5
designator IC?
positive LDO regulator, 1.5A, 2.5V; Part Number: LM1086CS-2.5; Component Kind: Standard; Component Type: Standard; Designator: LM1086CS-2.5; Footprint: TO-263 4pin; Library Reference: LM1086CS-2.5; Pin Count: 4
footprint TO-263 4pin
pins: 1 GND, 2 OUT, 3 IN, 4 OUT

## LM1086CS-2.85
designator IC?
positive LDO regulator, 1.5A, 2.85V; Part Number: LM1086CS-2.85; Component Kind: Standard; Component Type: Standard; Designator: LM1086CS-2.85; Footprint: TO-263 4pin; Library Reference: LM1086CS-2.85; Pin Count: 4
footprint TO-263 4pin
pins: 1 GND, 2 OUT, 3 IN, 4 OUT

## LM1086CS-3.3
designator IC?
positive LDO regulator, 1.5A, 3.3V; Part Number: LM1086CS-3.3; Component Kind: Standard; Component Type: Standard; Designator: LM1086CS-3.3; Footprint: TO-263 4pin; Library Reference: LM1086CS-3.3; Pin Count: 4
footprint TO-263 4pin
pins: 1 GND, 2 OUT, 3 IN, 4 OUT

## LM1086CS-5.0
designator IC?
positive LDO regulator, 1.5A, 5.0V; Part Number: LM1086CS-5.0; Component Kind: Standard; Component Type: Standard; Designator: LM1086CS-5.0; Footprint: TO-263 4pin; Library Reference: LM1086CS-5.0; Pin Count: 4
footprint TO-263 4pin
pins: 1 GND, 2 OUT, 3 IN, 4 OUT

## LM1086CS-ADJ
designator IC?
positive LDO regulator, 1.5A, adjustable
footprint TO-263 4pin
pins: 1 GND, 2 OUT, 3 IN, 4 OUT

## LM1117IMP-3.3/NOPB
designator IC?
low dropout linear regulator, 3.3V 800mA, SOT-223; Part Number: LM1117IMP-3.3/NOPB; Component Kind: Standard; Component Type: Standard; Designator: LM1117IMP-3.3/NOPB; Footprint: smd SOT-223; Library Reference: LM1117IMP-3.3/NOPB; Pin Count: 3
footprint smd SOT-223
pins: 1, 2, 3
text: IN; OUT; GND

## LM1117MPX-1.8
designator IC?
low dropout linear regulator, 1.8V 800mA, SOT-223; Part Number: LM1117MPX-1.8; Component Kind: Standard; Component Type: Standard; Designator: LM1117MPX-1.8; Footprint: smd SOT-223; Library Reference: LM1117MPX-1.8; Pin Count: 3
footprint smd SOT-223
pins: 1, 2, 3
text: IN; OUT; GND

## LM1117MPX-2.5
designator IC?
low dropout linear regulator, 2.5V 800mA, SOT-223; Part Number: LM1117MPX-2.5; Component Kind: Standard; Component Type: Standard; Designator: LM1117MPX-2.5; Footprint: smd SOT-223; Library Reference: LM1117MPX-2.5; Pin Count: 3
footprint smd SOT-223
pins: 1, 2, 3
text: IN; OUT; GND

## LM1117MPX-2.85
designator IC?
low dropout linear regulator, 2.85V 800mA, SOT-223; Part Number: LM1117MPX-2.85; Component Kind: Standard; Component Type: Standard; Designator: LM1117MPX-2.85; Footprint: smd SOT-223; Library Reference: LM1117MPX-2.85; Pin Count: 3
footprint smd SOT-223
pins: 1, 2, 3
text: IN; OUT; GND

## LM1117MPX-3.3
designator IC?
low dropout linear regulator, 3.3V 800mA, SOT-223; Part Number: LM1117MPX-3.3; Component Kind: Standard; Component Type: Standard; Designator: LM1117MPX-3.3; Footprint: smd SOT-223; Library Reference: LM1117MPX-3.3; Pin Count: 3
footprint smd SOT-223
pins: 1, 2, 3
text: IN; OUT; GND

## LM1117MPX-5.0
designator IC?
low dropout linear regulator, 5V 800mA, SOT-223; Part Number: LM1117MPX-5.0; Component Kind: Standard; Component Type: Standard; Designator: LM1117MPX-5.0; Footprint: smd SOT-223; Library Reference: LM1117MPX-5.0; Pin Count: 3
footprint smd SOT-223
pins: 1, 2, 3
text: IN; OUT; GND

## LM1117T-1.8
designator IC?
low dropout linear regulator, 1.8V 800mA, TO-220
footprint TO-220 (vertikaal)
pins: 1, 2, 3
text: IN; OUT; GND

## LM1117T-2.5
designator IC?
low dropout linear regulator, 2.5V 800mA, TO-220; Part Number: LM1117T-2.5; Component Kind: Standard; Component Type: Standard; Designator: LM1117T-2.5; Footprint: TO-220 (vertikaal); Library Reference: LM1117T-2.5; Pin Count: 3
footprint TO-220 (vertikaal)
pins: 1, 2, 3
text: IN; OUT; GND

## LM1117T-2.85
designator IC?
low dropout linear regulator, 2.85V 800mA, TO-220; Part Number: LM1117T-2.85; Component Kind: Standard; Component Type: Standard; Designator: LM1117T-2.85; Footprint: TO-220 (vertikaal); Library Reference: LM1117T-2.85; Pin Count: 3
footprint TO-220 (vertikaal)
pins: 1, 2, 3
text: IN; OUT; GND

## LM1117T-3.3
designator IC?
low dropout linear regulator, 3.3V 800mA, TO-220; Part Number: LM1117T-3.3; Component Kind: Standard; Component Type: Standard; Designator: LM1117T-3.3; Footprint: TO-220 (vertikaal); Library Reference: LM1117T-3.3; Pin Count: 3
footprint TO-220 (vertikaal)
pins: 1, 2, 3
text: IN; OUT; GND

## LM1117T-5.0
designator IC?
low dropout linear regulator, 5V 800mA, TO-220; Part Number: LM1117T-5.0; Component Kind: Standard; Component Type: Standard; Designator: LM1117T-5.0; Footprint: TO-220 (vertikaal); Library Reference: LM1117T-5.0; Pin Count: 3
footprint TO-220 (vertikaal)
pins: 1, 2, 3
text: IN; OUT; GND

## LM2576T-3.3
designator IC?
3A flyback regulator, +3.3V
footprint TO-220 5pin
pins: 1, 2, 3, 4, 5
text: VIN; OUT; 'ON'/OFF; FB; GND

## LM2576T-5.0
designator IC?
3A flyback regulator, +5V; Part Number: LM2576T-5.0; Component Kind: Standard; Component Type: Standard; Designator: LM2576T-5.0; Footprint: TO-220 5pin; Library Reference: LM2576T-5.0; Pin Count: 5
footprint TO-220 5pin
pins: 1, 2, 3, 4, 5
text: VIN; OUT; 'ON'/OFF; FB; GND

## LM2576T-12
designator IC?
3A flyback regulator, +12V; Part Number: LM2576T-12; Component Kind: Standard; Component Type: Standard; Designator: LM2576T-12; Footprint: TO-220 5pin; Library Reference: LM2576T-12; Pin Count: 5
footprint TO-220 5pin
pins: 1, 2, 3, 4, 5
text: VIN; OUT; 'ON'/OFF; FB; GND

## LM2576T-15
designator IC?
3A flyback regulator, +15V; Part Number: LM2576T-15; Component Kind: Standard; Component Type: Standard; Designator: LM2576T-15; Footprint: TO-220 5pin; Library Reference: LM2576T-15; Pin Count: 5
footprint TO-220 5pin
pins: 1, 2, 3, 4, 5
text: VIN; OUT; 'ON'/OFF; FB; GND

## LM2587T-3.3
designator IC?
5A flyback regulator, +3.3V
footprint TO-220 5pin
pins: 1, 2, 3, 4, 5
text: VIN; SWITCH; COMP; FB; GND

## LM2587T-5.0
designator IC?
5A flyback regulator, +5V; Part Number: LM2587T-5.0; Component Kind: Standard; Component Type: Standard; Designator: LM2587T-5.0; Footprint: TO-220 5pin; Library Reference: LM2587T-5.0; Pin Count: 5
footprint TO-220 5pin
pins: 1, 2, 3, 4, 5
text: VIN; SWITCH; COMP; FB; GND

## LM2587T-12
designator IC?
5A flyback regulator, +12V; Part Number: LM2587T-12; Component Kind: Standard; Component Type: Standard; Designator: LM2587T-12; Footprint: TO-220 5pin; Library Reference: LM2587T-12; Pin Count: 5
footprint TO-220 5pin
pins: 1, 2, 3, 4, 5
text: VIN; SWITCH; COMP; FB; GND

## LM2676T-ADJ
designator IC?
High Efficiency 3A Step-Down  Voltage Regulator
footprint to-220 7pin
pins: 1 OUT, 2 IN, 3 CBoost, 4 GND, 6 FB, 7 ON/~{OFF}

## LM2931CM
designator IC?
low dropout regulator
footprint smd SOICN/8
pins: 1, 2, 3, 4, 5, 6, 7, 8
text: IN; ADJ; OUT; ON/OFF; 4xGND

## LM2936Z-3.0
designator IC?
ultra-low quiescent current LDO voltage regulator; Part Number: LM2936Z-3.0; Component Kind: Standard; Component Type: Standard; Designator: LM2936Z-3.0; Footprint: TO-92; Library Reference: LM2936Z-3.0; Pin Count: 3
footprint TO-92
pins: 1, 2, 3
text: IN; OUT; GND

## LM2936Z-3.3
designator IC?
ultra-low quiescent current LDO voltage regulator; Part Number: LM2936Z-3.3; Component Kind: Standard; Component Type: Standard; Designator: LM2936Z-3.3; Footprint: TO-92; Library Reference: LM2936Z-3.3; Pin Count: 3
footprint TO-92
pins: 1, 2, 3
text: IN; OUT; GND

## LM2936Z-5.0
designator IC?
ultra-low quiescent current LDO voltage regulator; Part Number: LM2936Z-5.0; Component Kind: Standard; Component Type: Standard; Designator: LM2936Z-5.0; Footprint: TO-92; Library Reference: LM2936Z-5.0; Pin Count: 3
footprint TO-92
pins: 1, 2, 3
text: IN; OUT; GND

## LM3940IT-3.3
designator IC?
low dropout regulator, +5V to +3.3V
footprint TO-220 (vertikaal)
pins: 1, 2, 3
text: IN; OUT; GND

## LM4120AIM5-1.8
designator IC?
precision micropower low dropout voltage reference
footprint smd MF05A
pins: 1, 2, 3, 4, 5
text: VIN; VOUT; EN; GND; REF

## LM4120AIM5-2.0
designator IC?
precision micropower low dropout voltage reference; Part Number: LM4120AIM5-2.0; Component Kind: Standard; Component Type: Standard; Designator: LM4120AIM5-2.0; Footprint: smd MF05A; Library Reference: LM4120AIM5-2.0; Pin Count: 5
footprint smd MF05A
pins: 1, 2, 3, 4, 5
text: VIN; VOUT; EN; GND; REF

## LM4120AIM5-2.5
designator IC?
precision micropower low dropout voltage reference; Part Number: LM4120AIM5-2.5; Component Kind: Standard; Component Type: Standard; Designator: LM4120AIM5-2.5; Footprint: smd MF05A; Library Reference: LM4120AIM5-2.5; Pin Count: 5
footprint smd MF05A
pins: 1, 2, 3, 4, 5
text: VIN; VOUT; EN; GND; REF

## LM4120AIM5-3.0
designator IC?
precision micropower low dropout voltage reference; Part Number: LM4120AIM5-3.0; Component Kind: Standard; Component Type: Standard; Designator: LM4120AIM5-3.0; Footprint: smd MF05A; Library Reference: LM4120AIM5-3.0; Pin Count: 5
footprint smd MF05A
pins: 1, 2, 3, 4, 5
text: VIN; VOUT; EN; GND; REF

## LM4120AIM5-3.3
designator IC?
precision micropower low dropout voltage reference; Part Number: LM4120AIM5-3.3; Component Kind: Standard; Component Type: Standard; Designator: LM4120AIM5-3.3; Footprint: smd MF05A; Library Reference: LM4120AIM5-3.3; Pin Count: 5
footprint smd MF05A
pins: 1, 2, 3, 4, 5
text: VIN; VOUT; EN; GND; REF

## LM4120AIM5-4.1
designator IC?
precision micropower low dropout voltage reference; Part Number: LM4120AIM5-4.1; Component Kind: Standard; Component Type: Standard; Designator: LM4120AIM5-4.1; Footprint: smd MF05A; Library Reference: LM4120AIM5-4.1; Pin Count: 5
footprint smd MF05A
pins: 1, 2, 3, 4, 5
text: VIN; VOUT; EN; GND; REF

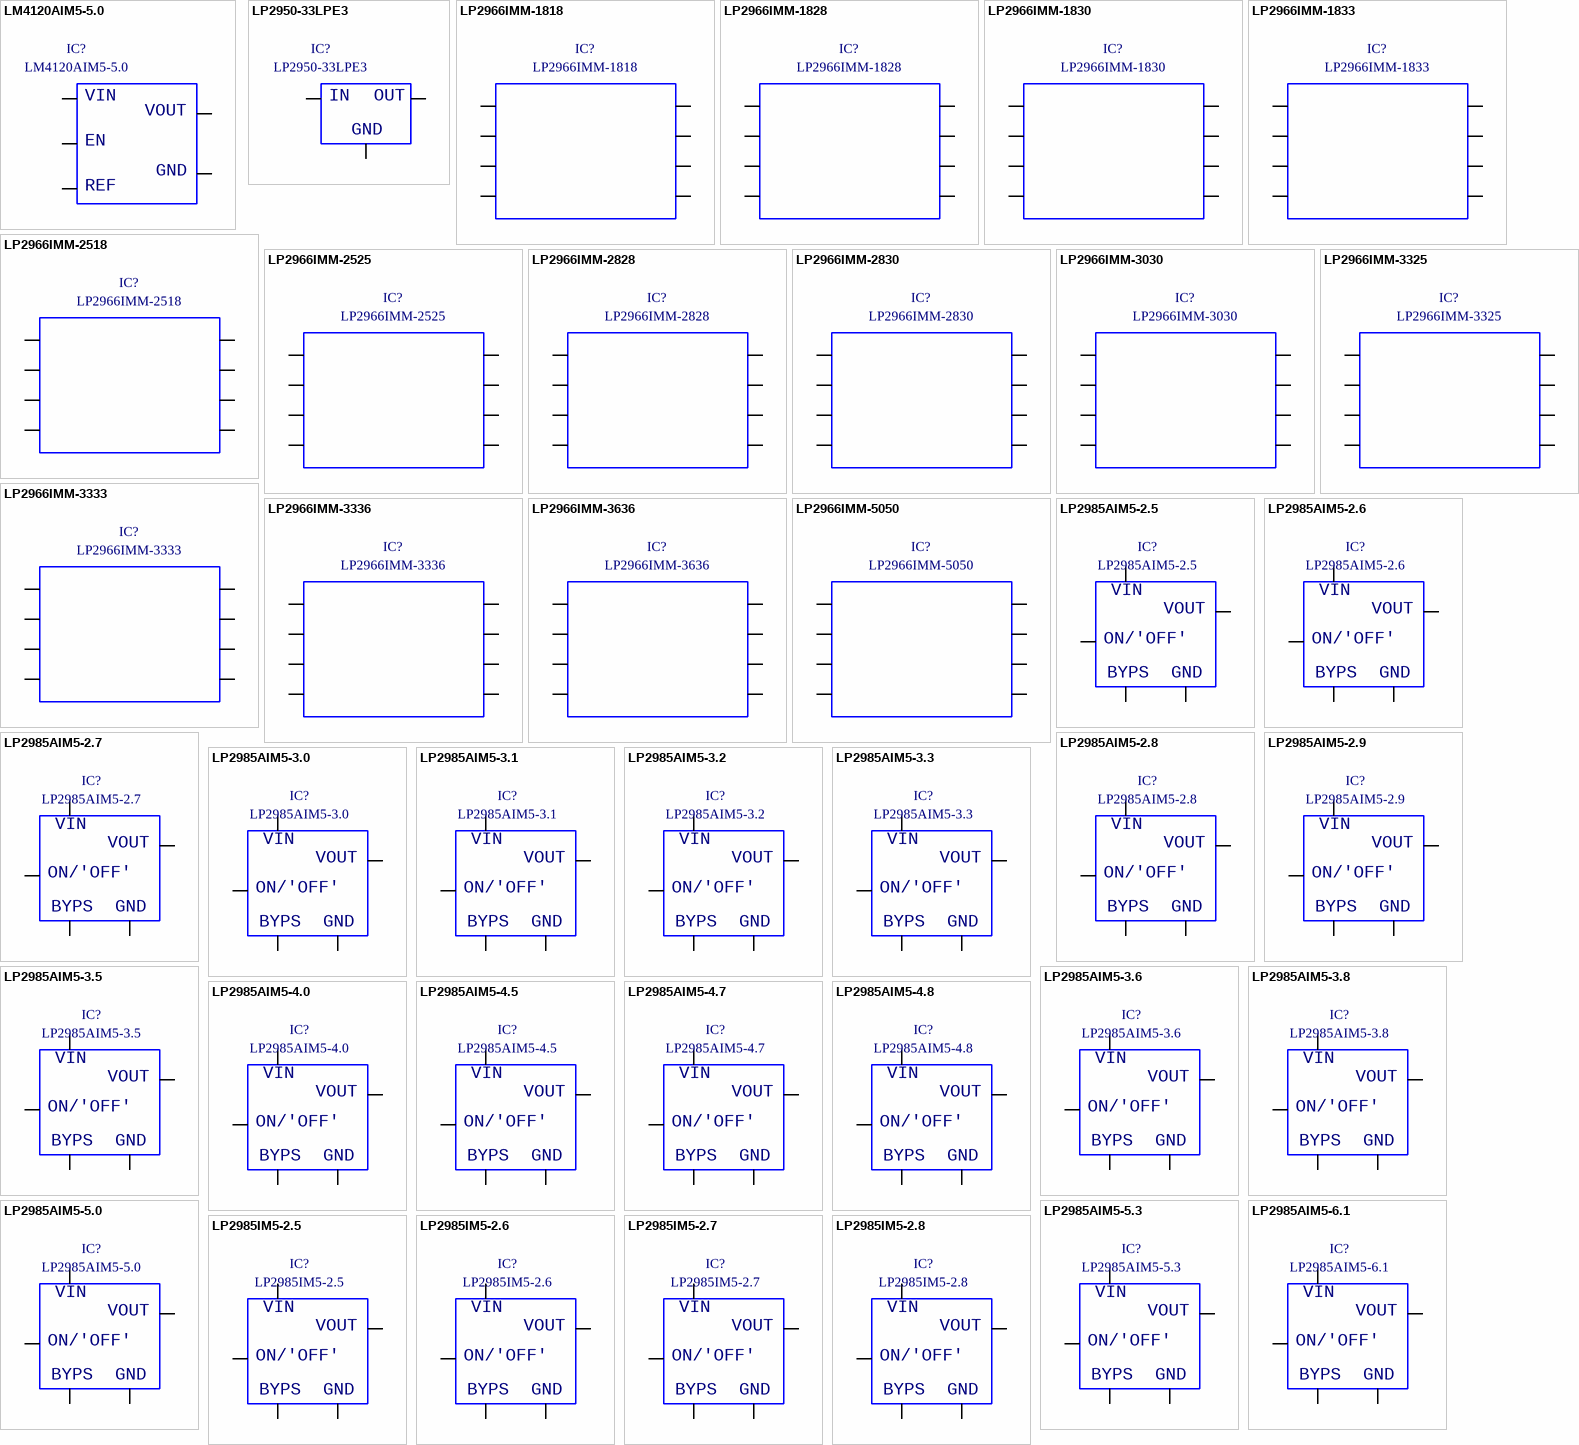
[diagram p110: symbols LM4120AIM5-5.0 to LP2985IM5-2.8]

## LM4120AIM5-5.0
designator IC?
precision micropower low dropout voltage reference; Part Number: LM4120AIM5-5.0; Component Kind: Standard; Component Type: Standard; Designator: LM4120AIM5-5.0; Footprint: smd MF05A; Library Reference: LM4120AIM5-5.0; Pin Count: 5
footprint smd MF05A
pins: 1, 2, 3, 4, 5
text: VIN; VOUT; EN; GND; REF

## LP2950-33LPE3
designator IC?
µpower voltage regulator, +3.3V
footprint TO-92
pins: 1, 2, 3
text: IN; OUT; GND

## LP2966IMM-1818
designator IC?
Dual 150mA Ultra Low-Dropout Regulator; Part Number: LP2966IMM-1818; Component Kind: Standard; Component Type: Standard; Designator: LP2966IMM-1818; Footprint: smd MSOP/8; Library Reference: LP2966IMM-1818; Pin Count: 8
footprint smd MSOP/8
pins: 1 VIN, 2 'SD1', 3 'SD2', 4 GND, 5 'ERROR2', 6 'ERROR1', 7 VOUT2, 8 VOUT1

## LP2966IMM-1828
designator IC?
Dual 150mA Ultra Low-Dropout Regulator; Part Number: LP2966IMM-1828; Component Kind: Standard; Component Type: Standard; Designator: LP2966IMM-1828; Footprint: smd MSOP/8; Library Reference: LP2966IMM-1828; Pin Count: 8
footprint smd MSOP/8
pins: 1 VIN, 2 'SD1', 3 'SD2', 4 GND, 5 'ERROR2', 6 'ERROR1', 7 VOUT2, 8 VOUT1

## LP2966IMM-1830
designator IC?
Dual 150mA Ultra Low-Dropout Regulator; Part Number: LP2966IMM-1830; Component Kind: Standard; Component Type: Standard; Designator: LP2966IMM-1830; Footprint: smd MSOP/8; Library Reference: LP2966IMM-1830; Pin Count: 8
footprint smd MSOP/8
pins: 1 VIN, 2 'SD1', 3 'SD2', 4 GND, 5 'ERROR2', 6 'ERROR1', 7 VOUT2, 8 VOUT1

## LP2966IMM-1833
designator IC?
Dual 150mA Ultra Low-Dropout Regulator; Part Number: LP2966IMM-1833; Component Kind: Standard; Component Type: Standard; Designator: LP2966IMM-1833; Footprint: smd MSOP/8; Library Reference: LP2966IMM-1833; Pin Count: 8
footprint smd MSOP/8
pins: 1 VIN, 2 'SD1', 3 'SD2', 4 GND, 5 'ERROR2', 6 'ERROR1', 7 VOUT2, 8 VOUT1

## LP2966IMM-2518
designator IC?
Dual 150mA Ultra Low-Dropout Regulator; Part Number: LP2966IMM-2518; Component Kind: Standard; Component Type: Standard; Designator: LP2966IMM-2518; Footprint: smd MSOP/8; Library Reference: LP2966IMM-2518; Pin Count: 8
footprint smd MSOP/8
pins: 1 VIN, 2 'SD1', 3 'SD2', 4 GND, 5 'ERROR2', 6 'ERROR1', 7 VOUT2, 8 VOUT1

## LP2966IMM-2525
designator IC?
Dual 150mA Ultra Low-Dropout Regulator; Part Number: LP2966IMM-2525; Component Kind: Standard; Component Type: Standard; Designator: LP2966IMM-2525; Footprint: smd MSOP/8; Library Reference: LP2966IMM-2525; Pin Count: 8
footprint smd MSOP/8
pins: 1 VIN, 2 'SD1', 3 'SD2', 4 GND, 5 'ERROR2', 6 'ERROR1', 7 VOUT2, 8 VOUT1

## LP2966IMM-2828
designator IC?
Dual 150mA Ultra Low-Dropout Regulator; Part Number: LP2966IMM-2828; Component Kind: Standard; Component Type: Standard; Designator: LP2966IMM-2828; Footprint: smd MSOP/8; Library Reference: LP2966IMM-2828; Pin Count: 8
footprint smd MSOP/8
pins: 1 VIN, 2 'SD1', 3 'SD2', 4 GND, 5 'ERROR2', 6 'ERROR1', 7 VOUT2, 8 VOUT1

## LP2966IMM-2830
designator IC?
Dual 150mA Ultra Low-Dropout Regulator; Part Number: LP2966IMM-2830; Component Kind: Standard; Component Type: Standard; Designator: LP2966IMM-2830; Footprint: smd MSOP/8; Library Reference: LP2966IMM-2830; Pin Count: 8
footprint smd MSOP/8
pins: 1 VIN, 2 'SD1', 3 'SD2', 4 GND, 5 'ERROR2', 6 'ERROR1', 7 VOUT2, 8 VOUT1

## LP2966IMM-3030
designator IC?
Dual 150mA Ultra Low-Dropout Regulator; Part Number: LP2966IMM-3030; Component Kind: Standard; Component Type: Standard; Designator: LP2966IMM-3030; Footprint: smd MSOP/8; Library Reference: LP2966IMM-3030; Pin Count: 8
footprint smd MSOP/8
pins: 1 VIN, 2 'SD1', 3 'SD2', 4 GND, 5 'ERROR2', 6 'ERROR1', 7 VOUT2, 8 VOUT1

## LP2966IMM-3325
designator IC?
Dual 150mA Ultra Low-Dropout Regulator; Part Number: LP2966IMM-3325; Component Kind: Standard; Component Type: Standard; Designator: LP2966IMM-3325; Footprint: smd MSOP/8; Library Reference: LP2966IMM-3325; Pin Count: 8
footprint smd MSOP/8
pins: 1 VIN, 2 'SD1', 3 'SD2', 4 GND, 5 'ERROR2', 6 'ERROR1', 7 VOUT2, 8 VOUT1

## LP2966IMM-3333
designator IC?
Dual 150mA Ultra Low-Dropout Regulator; Part Number: LP2966IMM-3333; Component Kind: Standard; Component Type: Standard; Designator: LP2966IMM-3333; Footprint: smd MSOP/8; Library Reference: LP2966IMM-3333; Pin Count: 8
footprint smd MSOP/8
pins: 1 VIN, 2 'SD1', 3 'SD2', 4 GND, 5 'ERROR2', 6 'ERROR1', 7 VOUT2, 8 VOUT1

## LP2966IMM-3336
designator IC?
Dual 150mA Ultra Low-Dropout Regulator; Part Number: LP2966IMM-3336; Component Kind: Standard; Component Type: Standard; Designator: LP2966IMM-3336; Footprint: smd MSOP/8; Library Reference: LP2966IMM-3336; Pin Count: 8
footprint smd MSOP/8
pins: 1 VIN, 2 'SD1', 3 'SD2', 4 GND, 5 'ERROR2', 6 'ERROR1', 7 VOUT2, 8 VOUT1

## LP2966IMM-3636
designator IC?
Dual 150mA Ultra Low-Dropout Regulator; Part Number: LP2966IMM-3636; Component Kind: Standard; Component Type: Standard; Designator: LP2966IMM-3636; Footprint: smd MSOP/8; Library Reference: LP2966IMM-3636; Pin Count: 8
footprint smd MSOP/8
pins: 1 VIN, 2 'SD1', 3 'SD2', 4 GND, 5 'ERROR2', 6 'ERROR1', 7 VOUT2, 8 VOUT1

## LP2966IMM-5050
designator IC?
Dual 150mA Ultra Low-Dropout Regulator
footprint smd MSOP/8
pins: 1 VIN, 2 'SD1', 3 'SD2', 4 GND, 5 'ERROR2', 6 'ERROR1', 7 VOUT2, 8 VOUT1

## LP2985AIM5-2.5
designator IC?
spanningsregelaar, ulra low dropout, micropower, low noise
footprint smd MF05A
pins: 1, 2, 3, 4, 5
text: VIN; VOUT; ON/'OFF'; BYPS; GND

## LP2985AIM5-2.6
designator IC?
spanningsregelaar, ulra low dropout, micropower, low noise; Part Number: LP2985AIM5-2.6; Component Kind: Standard; Component Type: Standard; Designator: LP2985AIM5-2.6; Footprint: smd MF05A; Library Reference: LP2985AIM5-2.6; Pin Count: 5
footprint smd MF05A
pins: 1, 2, 3, 4, 5
text: VIN; VOUT; ON/'OFF'; BYPS; GND

## LP2985AIM5-2.7
designator IC?
spanningsregelaar, ulra low dropout, micropower, low noise; Part Number: LP2985AIM5-2.7; Component Kind: Standard; Component Type: Standard; Designator: LP2985AIM5-2.7; Footprint: smd MF05A; Library Reference: LP2985AIM5-2.7; Pin Count: 5
footprint smd MF05A
pins: 1, 2, 3, 4, 5
text: VIN; VOUT; ON/'OFF'; BYPS; GND

## LP2985AIM5-2.8
designator IC?
spanningsregelaar, ulra low dropout, micropower, low noise; Part Number: LP2985AIM5-2.8; Component Kind: Standard; Component Type: Standard; Designator: LP2985AIM5-2.8; Footprint: smd MF05A; Library Reference: LP2985AIM5-2.8; Pin Count: 5
footprint smd MF05A
pins: 1, 2, 3, 4, 5
text: VIN; VOUT; ON/'OFF'; BYPS; GND

## LP2985AIM5-2.9
designator IC?
spanningsregelaar, ulra low dropout, micropower, low noise; Part Number: LP2985AIM5-2.9; Component Kind: Standard; Component Type: Standard; Designator: LP2985AIM5-2.9; Footprint: smd MF05A; Library Reference: LP2985AIM5-2.9; Pin Count: 5
footprint smd MF05A
pins: 1, 2, 3, 4, 5
text: VIN; VOUT; ON/'OFF'; BYPS; GND

## LP2985AIM5-3.0
designator IC?
spanningsregelaar, ulra low dropout, micropower, low noise; Part Number: LP2985AIM5-3.0; Component Kind: Standard; Component Type: Standard; Designator: LP2985AIM5-3.0; Footprint: smd MF05A; Library Reference: LP2985AIM5-3.0; Pin Count: 5
footprint smd MF05A
pins: 1, 2, 3, 4, 5
text: VIN; VOUT; ON/'OFF'; BYPS; GND

## LP2985AIM5-3.1
designator IC?
spanningsregelaar, ulra low dropout, micropower, low noise; Part Number: LP2985AIM5-3.1; Component Kind: Standard; Component Type: Standard; Designator: LP2985AIM5-3.1; Footprint: smd MF05A; Library Reference: LP2985AIM5-3.1; Pin Count: 5
footprint smd MF05A
pins: 1, 2, 3, 4, 5
text: VIN; VOUT; ON/'OFF'; BYPS; GND

## LP2985AIM5-3.2
designator IC?
spanningsregelaar, ulra low dropout, micropower, low noise; Part Number: LP2985AIM5-3.2; Component Kind: Standard; Component Type: Standard; Designator: LP2985AIM5-3.2; Footprint: smd MF05A; Library Reference: LP2985AIM5-3.2; Pin Count: 5
footprint smd MF05A
pins: 1, 2, 3, 4, 5
text: VIN; VOUT; ON/'OFF'; BYPS; GND

## LP2985AIM5-3.3
designator IC?
spanningsregelaar, ulra low dropout, micropower, low noise; Part Number: LP2985AIM5-3.3; Component Kind: Standard; Component Type: Standard; Designator: LP2985AIM5-3.3; Footprint: smd MF05A; Library Reference: LP2985AIM5-3.3; Pin Count: 5
footprint smd MF05A
pins: 1, 2, 3, 4, 5
text: VIN; VOUT; ON/'OFF'; BYPS; GND

## LP2985AIM5-3.5
designator IC?
spanningsregelaar, ulra low dropout, micropower, low noise; Part Number: LP2985AIM5-3.5; Component Kind: Standard; Component Type: Standard; Designator: LP2985AIM5-3.5; Footprint: smd MF05A; Library Reference: LP2985AIM5-3.5; Pin Count: 5
footprint smd MF05A
pins: 1, 2, 3, 4, 5
text: VIN; VOUT; ON/'OFF'; BYPS; GND

## LP2985AIM5-3.6
designator IC?
spanningsregelaar, ulra low dropout, micropower, low noise; Part Number: LP2985AIM5-3.6; Component Kind: Standard; Component Type: Standard; Designator: LP2985AIM5-3.6; Footprint: smd MF05A; Library Reference: LP2985AIM5-3.6; Pin Count: 5
footprint smd MF05A
pins: 1, 2, 3, 4, 5
text: VIN; VOUT; ON/'OFF'; BYPS; GND

## LP2985AIM5-3.8
designator IC?
spanningsregelaar, ulra low dropout, micropower, low noise; Part Number: LP2985AIM5-3.8; Component Kind: Standard; Component Type: Standard; Designator: LP2985AIM5-3.8; Footprint: smd MF05A; Library Reference: LP2985AIM5-3.8; Pin Count: 5
footprint smd MF05A
pins: 1, 2, 3, 4, 5
text: VIN; VOUT; ON/'OFF'; BYPS; GND

## LP2985AIM5-4.0
designator IC?
spanningsregelaar, ulra low dropout, micropower, low noise; Part Number: LP2985AIM5-4.0; Component Kind: Standard; Component Type: Standard; Designator: LP2985AIM5-4.0; Footprint: smd MF05A; Library Reference: LP2985AIM5-4.0; Pin Count: 5
footprint smd MF05A
pins: 1, 2, 3, 4, 5
text: VIN; VOUT; ON/'OFF'; BYPS; GND

## LP2985AIM5-4.5
designator IC?
spanningsregelaar, ulra low dropout, micropower, low noise; Part Number: LP2985AIM5-4.5; Component Kind: Standard; Component Type: Standard; Designator: LP2985AIM5-4.5; Footprint: smd MF05A; Library Reference: LP2985AIM5-4.5; Pin Count: 5
footprint smd MF05A
pins: 1, 2, 3, 4, 5
text: VIN; VOUT; ON/'OFF'; BYPS; GND

## LP2985AIM5-4.7
designator IC?
spanningsregelaar, ulra low dropout, micropower, low noise; Part Number: LP2985AIM5-4.7; Component Kind: Standard; Component Type: Standard; Designator: LP2985AIM5-4.7; Footprint: smd MF05A; Library Reference: LP2985AIM5-4.7; Pin Count: 5
footprint smd MF05A
pins: 1, 2, 3, 4, 5
text: VIN; VOUT; ON/'OFF'; BYPS; GND

## LP2985AIM5-4.8
designator IC?
spanningsregelaar, ulra low dropout, micropower, low noise; Part Number: LP2985AIM5-4.8; Component Kind: Standard; Component Type: Standard; Designator: LP2985AIM5-4.8; Footprint: smd MF05A; Library Reference: LP2985AIM5-4.8; Pin Count: 5
footprint smd MF05A
pins: 1, 2, 3, 4, 5
text: VIN; VOUT; ON/'OFF'; BYPS; GND

## LP2985AIM5-5.0
designator IC?
spanningsregelaar, ulra low dropout, micropower, low noise; Part Number: LP2985AIM5-5.0; Component Kind: Standard; Component Type: Standard; Designator: LP2985AIM5-5.0; Footprint: smd MF05A; Library Reference: LP2985AIM5-5.0; Pin Count: 5
footprint smd MF05A
pins: 1, 2, 3, 4, 5
text: VIN; VOUT; ON/'OFF'; BYPS; GND

## LP2985AIM5-5.3
designator IC?
spanningsregelaar, ulra low dropout, micropower, low noise; Part Number: LP2985AIM5-5.3; Component Kind: Standard; Component Type: Standard; Designator: LP2985AIM5-5.3; Footprint: smd MF05A; Library Reference: LP2985AIM5-5.3; Pin Count: 5
footprint smd MF05A
pins: 1, 2, 3, 4, 5
text: VIN; VOUT; ON/'OFF'; BYPS; GND

## LP2985AIM5-6.1
designator IC?
spanningsregelaar, ulra low dropout, micropower, low noise; Part Number: LP2985AIM5-6.1; Component Kind: Standard; Component Type: Standard; Designator: LP2985AIM5-6.1; Footprint: smd MF05A; Library Reference: LP2985AIM5-6.1; Pin Count: 5
footprint smd MF05A
pins: 1, 2, 3, 4, 5
text: VIN; VOUT; ON/'OFF'; BYPS; GND

## LP2985IM5-2.5
designator IC?
spanningsregelaar, ulra low dropout, micropower, low noise; Part Number: LP2985IM5-2.5; Component Kind: Standard; Component Type: Standard; Designator: LP2985IM5-2.5; Footprint: smd MF05A; Library Reference: LP2985IM5-2.5; Pin Count: 5
footprint smd MF05A
pins: 1, 2, 3, 4, 5
text: VIN; VOUT; ON/'OFF'; BYPS; GND

## LP2985IM5-2.6
designator IC?
spanningsregelaar, ulra low dropout, micropower, low noise; Part Number: LP2985IM5-2.6; Component Kind: Standard; Component Type: Standard; Designator: LP2985IM5-2.6; Footprint: smd MF05A; Library Reference: LP2985IM5-2.6; Pin Count: 5
footprint smd MF05A
pins: 1, 2, 3, 4, 5
text: VIN; VOUT; ON/'OFF'; BYPS; GND

## LP2985IM5-2.7
designator IC?
spanningsregelaar, ulra low dropout, micropower, low noise; Part Number: LP2985IM5-2.7; Component Kind: Standard; Component Type: Standard; Designator: LP2985IM5-2.7; Footprint: smd MF05A; Library Reference: LP2985IM5-2.7; Pin Count: 5
footprint smd MF05A
pins: 1, 2, 3, 4, 5
text: VIN; VOUT; ON/'OFF'; BYPS; GND

## LP2985IM5-2.8
designator IC?
spanningsregelaar, ulra low dropout, micropower, low noise; Part Number: LP2985IM5-2.8; Component Kind: Standard; Component Type: Standard; Designator: LP2985IM5-2.8; Footprint: smd MF05A; Library Reference: LP2985IM5-2.8; Pin Count: 5
footprint smd MF05A
pins: 1, 2, 3, 4, 5
text: VIN; VOUT; ON/'OFF'; BYPS; GND

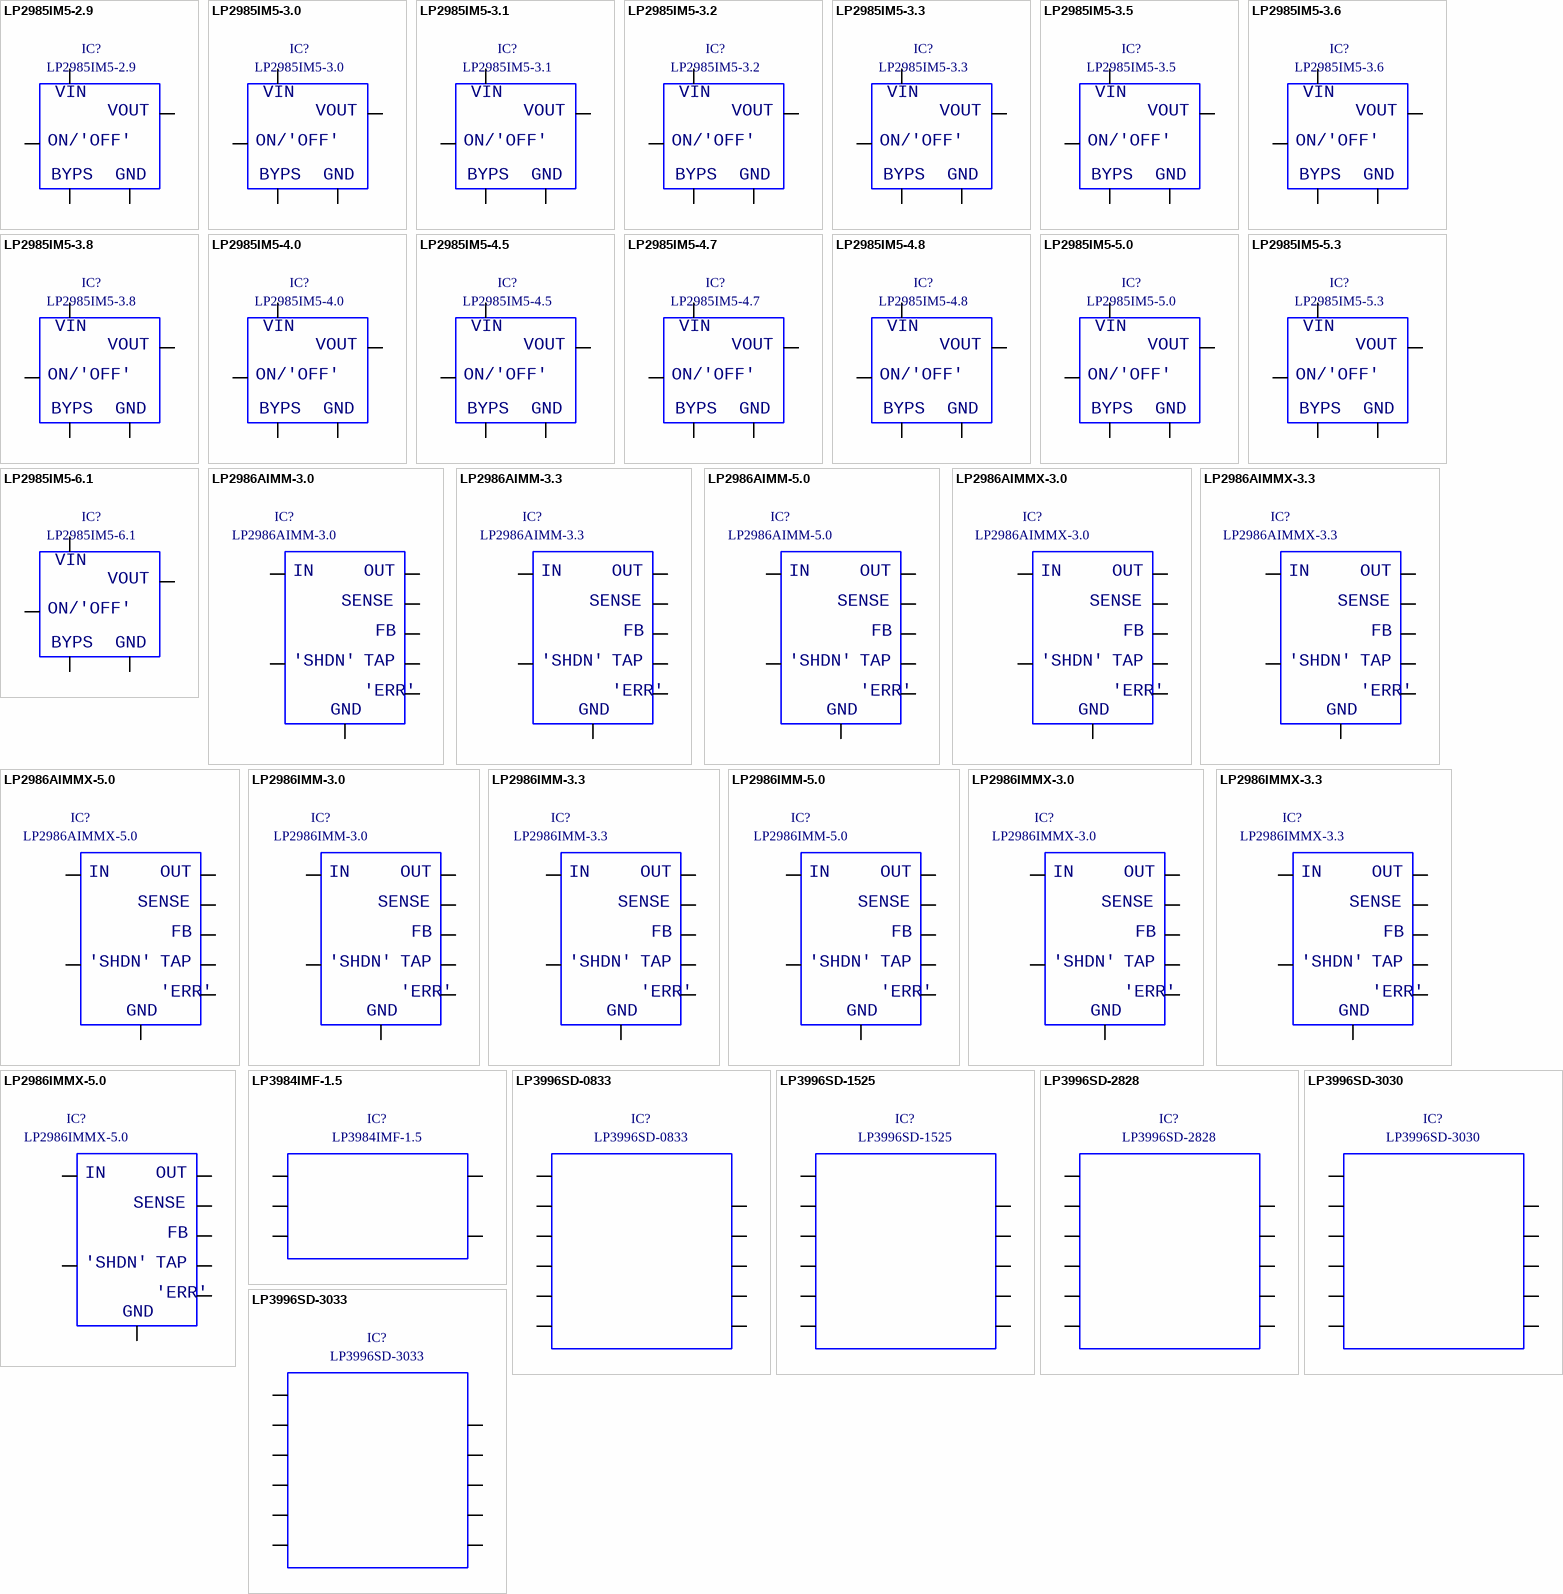
[diagram p111: symbols LP2985IM5-2.9 to LP3996SD-3033]

## LP2985IM5-2.9
designator IC?
spanningsregelaar, ulra low dropout, micropower, low noise; Part Number: LP2985IM5-2.9; Component Kind: Standard; Component Type: Standard; Designator: LP2985IM5-2.9; Footprint: smd MF05A; Library Reference: LP2985IM5-2.9; Pin Count: 5
footprint smd MF05A
pins: 1, 2, 3, 4, 5
text: VIN; VOUT; ON/'OFF'; BYPS; GND

## LP2985IM5-3.0
designator IC?
spanningsregelaar, ulra low dropout, micropower, low noise; Part Number: LP2985IM5-3.0; Component Kind: Standard; Component Type: Standard; Designator: LP2985IM5-3.0; Footprint: smd MF05A; Library Reference: LP2985IM5-3.0; Pin Count: 5
footprint smd MF05A
pins: 1, 2, 3, 4, 5
text: VIN; VOUT; ON/'OFF'; BYPS; GND

## LP2985IM5-3.1
designator IC?
spanningsregelaar, ulra low dropout, micropower, low noise; Part Number: LP2985IM5-3.1; Component Kind: Standard; Component Type: Standard; Designator: LP2985IM5-3.1; Footprint: smd MF05A; Library Reference: LP2985IM5-3.1; Pin Count: 5
footprint smd MF05A
pins: 1, 2, 3, 4, 5
text: VIN; VOUT; ON/'OFF'; BYPS; GND

## LP2985IM5-3.2
designator IC?
spanningsregelaar, ulra low dropout, micropower, low noise; Part Number: LP2985IM5-3.2; Component Kind: Standard; Component Type: Standard; Designator: LP2985IM5-3.2; Footprint: smd MF05A; Library Reference: LP2985IM5-3.2; Pin Count: 5
footprint smd MF05A
pins: 1, 2, 3, 4, 5
text: VIN; VOUT; ON/'OFF'; BYPS; GND

## LP2985IM5-3.3
designator IC?
spanningsregelaar, ulra low dropout, micropower, low noise; Part Number: LP2985IM5-3.3; Component Kind: Standard; Component Type: Standard; Designator: LP2985IM5-3.3; Footprint: smd MF05A; Library Reference: LP2985IM5-3.3; Pin Count: 5
footprint smd MF05A
pins: 1, 2, 3, 4, 5
text: VIN; VOUT; ON/'OFF'; BYPS; GND

## LP2985IM5-3.5
designator IC?
spanningsregelaar, ulra low dropout, micropower, low noise; Part Number: LP2985IM5-3.5; Component Kind: Standard; Component Type: Standard; Designator: LP2985IM5-3.5; Footprint: smd MF05A; Library Reference: LP2985IM5-3.5; Pin Count: 5
footprint smd MF05A
pins: 1, 2, 3, 4, 5
text: VIN; VOUT; ON/'OFF'; BYPS; GND

## LP2985IM5-3.6
designator IC?
spanningsregelaar, ulra low dropout, micropower, low noise; Part Number: LP2985IM5-3.6; Component Kind: Standard; Component Type: Standard; Designator: LP2985IM5-3.6; Footprint: smd MF05A; Library Reference: LP2985IM5-3.6; Pin Count: 5
footprint smd MF05A
pins: 1, 2, 3, 4, 5
text: VIN; VOUT; ON/'OFF'; BYPS; GND

## LP2985IM5-3.8
designator IC?
spanningsregelaar, ulra low dropout, micropower, low noise; Part Number: LP2985IM5-3.8; Component Kind: Standard; Component Type: Standard; Designator: LP2985IM5-3.8; Footprint: smd MF05A; Library Reference: LP2985IM5-3.8; Pin Count: 5
footprint smd MF05A
pins: 1, 2, 3, 4, 5
text: VIN; VOUT; ON/'OFF'; BYPS; GND

## LP2985IM5-4.0
designator IC?
spanningsregelaar, ulra low dropout, micropower, low noise; Part Number: LP2985IM5-4.0; Component Kind: Standard; Component Type: Standard; Designator: LP2985IM5-4.0; Footprint: smd MF05A; Library Reference: LP2985IM5-4.0; Pin Count: 5
footprint smd MF05A
pins: 1, 2, 3, 4, 5
text: VIN; VOUT; ON/'OFF'; BYPS; GND

## LP2985IM5-4.5
designator IC?
spanningsregelaar, ulra low dropout, micropower, low noise; Part Number: LP2985IM5-4.5; Component Kind: Standard; Component Type: Standard; Designator: LP2985IM5-4.5; Footprint: smd MF05A; Library Reference: LP2985IM5-4.5; Pin Count: 5
footprint smd MF05A
pins: 1, 2, 3, 4, 5
text: VIN; VOUT; ON/'OFF'; BYPS; GND

## LP2985IM5-4.7
designator IC?
spanningsregelaar, ulra low dropout, micropower, low noise; Part Number: LP2985IM5-4.7; Component Kind: Standard; Component Type: Standard; Designator: LP2985IM5-4.7; Footprint: smd MF05A; Library Reference: LP2985IM5-4.7; Pin Count: 5
footprint smd MF05A
pins: 1, 2, 3, 4, 5
text: VIN; VOUT; ON/'OFF'; BYPS; GND

## LP2985IM5-4.8
designator IC?
spanningsregelaar, ulra low dropout, micropower, low noise; Part Number: LP2985IM5-4.8; Component Kind: Standard; Component Type: Standard; Designator: LP2985IM5-4.8; Footprint: smd MF05A; Library Reference: LP2985IM5-4.8; Pin Count: 5
footprint smd MF05A
pins: 1, 2, 3, 4, 5
text: VIN; VOUT; ON/'OFF'; BYPS; GND

## LP2985IM5-5.0
designator IC?
spanningsregelaar, ulra low dropout, micropower, low noise; Part Number: LP2985IM5-5.0; Component Kind: Standard; Component Type: Standard; Designator: LP2985IM5-5.0; Footprint: smd MF05A; Library Reference: LP2985IM5-5.0; Pin Count: 5
footprint smd MF05A
pins: 1, 2, 3, 4, 5
text: VIN; VOUT; ON/'OFF'; BYPS; GND

## LP2985IM5-5.3
designator IC?
spanningsregelaar, ulra low dropout, micropower, low noise; Part Number: LP2985IM5-5.3; Component Kind: Standard; Component Type: Standard; Designator: LP2985IM5-5.3; Footprint: smd MF05A; Library Reference: LP2985IM5-5.3; Pin Count: 5
footprint smd MF05A
pins: 1, 2, 3, 4, 5
text: VIN; VOUT; ON/'OFF'; BYPS; GND

## LP2985IM5-6.1
designator IC?
spanningsregelaar, ulra low dropout, micropower, low noise; Part Number: LP2985IM5-6.1; Component Kind: Standard; Component Type: Standard; Designator: LP2985IM5-6.1; Footprint: smd MF05A; Library Reference: LP2985IM5-6.1; Pin Count: 5
footprint smd MF05A
pins: 1, 2, 3, 4, 5
text: VIN; VOUT; ON/'OFF'; BYPS; GND

## LP2986AIMM-3.0
designator IC?
micropower, 200 mA ultra low-dropout regulator; Part Number: LP2986AIMM-3.0; Component Kind: Standard; Component Type: Standard; Designator: LP2986AIMM-3.0; Footprint: smd TSSOP/8 (body 4.4 pitch 0.65); Library Reference: LP2986AIMM-3.0; Pin Count: 8
footprint smd TSSOP/8 (body 4.4 pitch 0.65)
pins: 1, 2, 3, 4, 5, 6, 7, 8
text: IN; OUT; SENSE; FB; 'SHDN'; TAP; 'ERR'; GND

## LP2986AIMM-3.3
designator IC?
micropower, 200 mA ultra low-dropout regulator; Part Number: LP2986AIMM-3.3; Component Kind: Standard; Component Type: Standard; Designator: LP2986AIMM-3.3; Footprint: smd TSSOP/8 (body 4.4 pitch 0.65); Library Reference: LP2986AIMM-3.3; Pin Count: 8
footprint smd TSSOP/8 (body 4.4 pitch 0.65)
pins: 1, 2, 3, 4, 5, 6, 7, 8
text: IN; OUT; SENSE; FB; 'SHDN'; TAP; 'ERR'; GND

## LP2986AIMM-5.0
designator IC?
micropower, 200 mA ultra low-dropout regulator; Part Number: LP2986AIMM-5.0; Component Kind: Standard; Component Type: Standard; Designator: LP2986AIMM-5.0; Footprint: smd TSSOP/8 (body 4.4 pitch 0.65); Library Reference: LP2986AIMM-5.0; Pin Count: 8
footprint smd TSSOP/8 (body 4.4 pitch 0.65)
pins: 1, 2, 3, 4, 5, 6, 7, 8
text: IN; OUT; SENSE; FB; 'SHDN'; TAP; 'ERR'; GND

## LP2986AIMMX-3.0
designator IC?
micropower, 200 mA ultra low-dropout regulator; Part Number: LP2986AIMMX-3.0; Component Kind: Standard; Component Type: Standard; Designator: LP2986AIMMX-3.0; Footprint: smd TSSOP/8 (body 4.4 pitch 0.65); Library Reference: LP2986AIMMX-3.0; Pin Count: 8
footprint smd TSSOP/8 (body 4.4 pitch 0.65)
pins: 1, 2, 3, 4, 5, 6, 7, 8
text: IN; OUT; SENSE; FB; 'SHDN'; TAP; 'ERR'; GND

## LP2986AIMMX-3.3
designator IC?
micropower, 200 mA ultra low-dropout regulator; Part Number: LP2986AIMMX-3.3; Component Kind: Standard; Component Type: Standard; Designator: LP2986AIMMX-3.3; Footprint: smd TSSOP/8 (body 4.4 pitch 0.65); Library Reference: LP2986AIMMX-3.3; Pin Count: 8
footprint smd TSSOP/8 (body 4.4 pitch 0.65)
pins: 1, 2, 3, 4, 5, 6, 7, 8
text: IN; OUT; SENSE; FB; 'SHDN'; TAP; 'ERR'; GND

## LP2986AIMMX-5.0
designator IC?
micropower, 200 mA ultra low-dropout regulator
footprint smd TSSOP/8 (body 4.4 pitch 0.65)
pins: 1, 2, 3, 4, 5, 6, 7, 8
text: IN; OUT; SENSE; FB; 'SHDN'; TAP; 'ERR'; GND

## LP2986IMM-3.0
designator IC?
micropower, 200 mA ultra low-dropout regulator; Part Number: LP2986IMM-3.0; Component Kind: Standard; Component Type: Standard; Designator: LP2986IMM-3.0; Footprint: smd TSSOP/8 (body 4.4 pitch 0.65); Library Reference: LP2986IMM-3.0; Pin Count: 8
footprint smd TSSOP/8 (body 4.4 pitch 0.65)
pins: 1, 2, 3, 4, 5, 6, 7, 8
text: IN; OUT; SENSE; FB; 'SHDN'; TAP; 'ERR'; GND